# Altium integrated library Altera Arria GX.IntLib: 44 symbols (part 7 of 24)
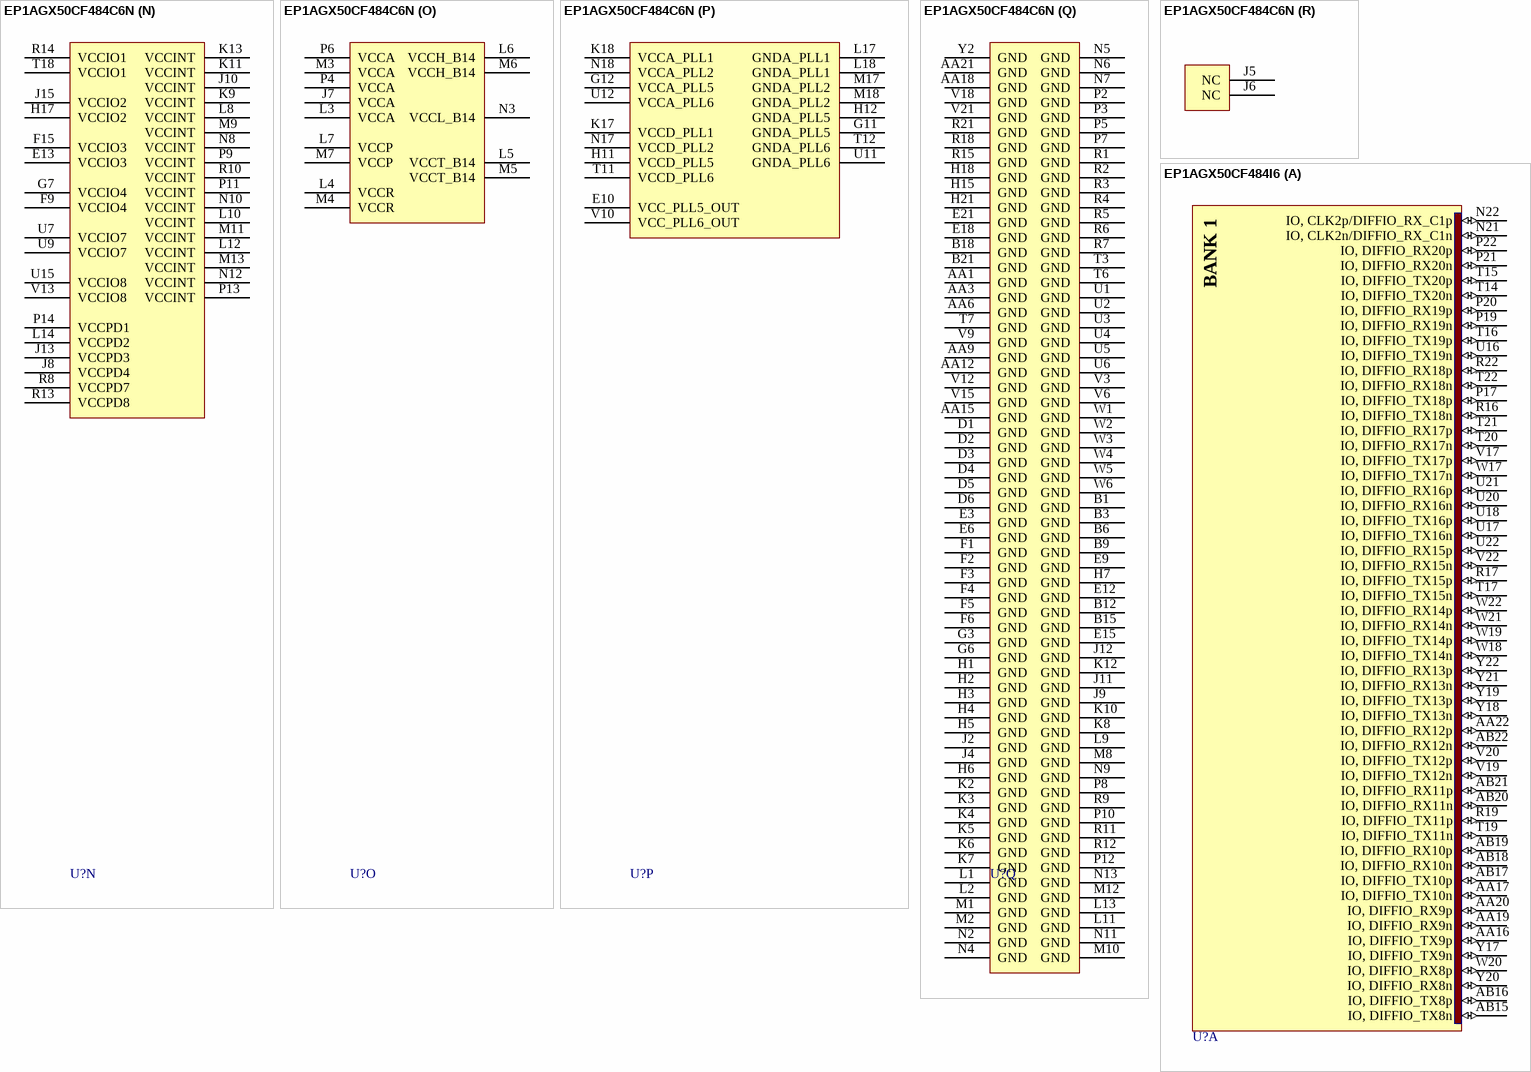
[diagram p146: symbols EP1AGX50CF484C6N to EP1AGX50CF484I6]

## EP1AGX50CF484C6N
designator U?
Arria GX Family FPGA, 254 I/O Pins, 4 PLLs, 484-Pin FPGA, Speed Grade 6, Commercial Grade, Pb-Free; Note: DQS signal pins named according to DQ bus modes.  "/" separates each mode. ie. Modes x8/x9 / Modes x16/x18.; Published: 20-Jul-2007; DatasheetVersion: ver1.3, May-2008; PackageVersion: ver16.0, Dec-2009; PackageReference: FBGA484; Publisher: Altium Limited; PackageDescription: 484-Ball FineLine Ball Grid Array (FBGA484) - Flip Chip; Supplier 1: Digi-Key; Supplier Part Number 1: 544-2397-ND; Code_JEDEC: MS-034-AAJ-1; Code_IPC: BGA100P22X22-484; ComponentLink1Description: Manufacturer Link; ComponentLink1URL: http://www.altera.com/; ComponentLink2Description: Datasheet; ComponentLink2URL: http://www.altera.com/literature/hb/agx/arriagx_handbook.pdf; ComponentLink3Description: Packaging Specification; ComponentLink3URL: http://www.altera.com/literature/ds/dspkg.pdf
footprint FBGA484 (BGA, 484-Leads, Body 23x23mm, Pitch 1mm)
3D model EP1AGX50C-FBGA484 (484-Ball FineLine Ball Grid Array (FBGA484) - Flip Chip)
signal-integrity model EP1AGX50C_F484 (Arria GX)
part A pins: AA16 IO, DIFFIO_TX9p (io), AA17 IO, DIFFIO_TX10n (io), AA19 IO, DIFFIO_RX9n (io), AA20 IO, DIFFIO_RX9p (io), AA22 IO, DIFFIO_RX12p (io), AB15 IO, DIFFIO_TX8n (io), AB16 IO, DIFFIO_TX8p (io), AB17 IO, DIFFIO_TX10p (io), AB18 IO, DIFFIO_RX10n (io), AB19 IO, DIFFIO_RX10p (io), AB20 IO, DIFFIO_RX11n (io), AB21 IO, DIFFIO_RX11p (io), AB22 IO, DIFFIO_RX12n (io), N21 IO, CLK2n/DIFFIO_RX_C1n (io), N22 IO, CLK2p/DIFFIO_RX_C1p (io), P17 IO, DIFFIO_TX18p (io), P19 IO, DIFFIO_RX19n (io), P20 IO, DIFFIO_RX19p (io), P21 IO, DIFFIO_RX20n (io), P22 IO, DIFFIO_RX20p (io), R16 IO, DIFFIO_TX18n (io), R17 IO, DIFFIO_TX15p (io), R19 IO, DIFFIO_TX11p (io), R22 IO, DIFFIO_RX18p (io), T14 IO, DIFFIO_TX20n (io), T15 IO, DIFFIO_TX20p (io), T16 IO, DIFFIO_TX19p (io), T17 IO, DIFFIO_TX15n (io), T19 IO, DIFFIO_TX11n (io), T20 IO, DIFFIO_RX17n (io), T21 IO, DIFFIO_RX17p (io), T22 IO, DIFFIO_RX18n (io), U16 IO, DIFFIO_TX19n (io), U17 IO, DIFFIO_TX16n (io), U18 IO, DIFFIO_TX16p (io), U20 IO, DIFFIO_RX16n (io), U21 IO, DIFFIO_RX16p (io), U22 IO, DIFFIO_RX15p (io), V17 IO, DIFFIO_TX17p (io), V19 IO, DIFFIO_TX12n (io), V20 IO, DIFFIO_TX12p (io), V22 IO, DIFFIO_RX15n (io), W17 IO, DIFFIO_TX17n (io), W18 IO, DIFFIO_TX14n (io), W19 IO, DIFFIO_TX14p (io), W20 IO, DIFFIO_RX8p (io), W21 IO, DIFFIO_RX14n (io), W22 IO, DIFFIO_RX14p (io), Y17 IO, DIFFIO_TX9n (io), Y18 IO, DIFFIO_TX13n (io), Y19 IO, DIFFIO_TX13p (io), Y20 IO, DIFFIO_RX8n (io), Y21 IO, DIFFIO_RX13n (io), Y22 IO, DIFFIO_RX13p (io)
part B pins: A17 IO, DIFFIO_RX35p (io), A18 IO, DIFFIO_RX34n (io), A19 IO, DIFFIO_RX34p (io), A20 IO, DIFFIO_RX33n (io), A21 IO, DIFFIO_RX33p (io), A22 IO, DIFFIO_RX32n (io), B17 IO, DIFFIO_RX35n (io), B19 IO, DIFFIO_RX36n (io), B20 IO, DIFFIO_RX36p (io), B22 IO, DIFFIO_RX32p (io), C19 IO, DIFFIO_TX35n (io), C20 IO, DIFFIO_TX35p (io), C21 IO, DIFFIO_RX31n (io), C22 IO, DIFFIO_RX31p (io), D18 IO, DIFFIO_TX36n (io), D19 IO, DIFFIO_TX36p (io), D20 IO, DIFFIO_TX34p (io), D21 IO, DIFFIO_RX30n (io), D22 IO, DIFFIO_RX30p (io), E20 IO, DIFFIO_TX34n (io), E22 IO, DIFFIO_RX29p (io), F17 IO, DIFFIO_TX31n (io), F18 IO, DIFFIO_TX31p (io), F19 IO, DIFFIO_TX33n (io), F20 IO, DIFFIO_TX33p (io), F21 IO, DIFFIO_RX28p (io), F22 IO, DIFFIO_RX29n (io), G16 IO, DIFFIO_TX30n (io), G17 IO, DIFFIO_TX30p (io), G18 IO, DIFFIO_TX32n (io), G19 IO, DIFFIO_TX32p (io), G20 IO, DIFFIO_RX27p (io), G21 IO, DIFFIO_RX28n (io), G22 IO, DIFFIO_RX26p (io), H16 IO, DIFFIO_TX29p (io), H20 IO, DIFFIO_RX27n (io), H22 IO, DIFFIO_RX26n (io), J16 IO, DIFFIO_TX29n (io), J17 IO, DIFFIO_TX27p (io), J19 IO, DIFFIO_RX24n (io), J20 IO, DIFFIO_RX24p (io), J21 IO, DIFFIO_RX25n (io), J22 IO, DIFFIO_RX25p (io), K14 IO, DIFFIO_TX28n (io), K15 IO, DIFFIO_TX28p (io), K16 IO, DIFFIO_TX27n (io), K19 IO, DIFFIO_TX23n (io), K20 IO, DIFFIO_TX23p (io), K21 IO, DIFFIO_RX23n (io), K22 IO, DIFFIO_RX23p (io), L15 IO, DIFFIO_TX26n (io), L16 IO, DIFFIO_TX26p (io), L19 IO, DIFFIO_RX21n (io), L20 IO, DIFFIO_RX21p (io), L21 IO, DIFFIO_RX22n (io), L22 IO, DIFFIO_RX22p (io), M14 IO, DIFFIO_TX25p (io), M15 IO, DIFFIO_TX24n (io), M16 IO, DIFFIO_TX24p (io), M21 IO, CLK0n/DIFFIO_RX_C0n (io), M22 IO, CLK0p/DIFFIO_RX_C0p (io), N14 IO, DIFFIO_TX25n (io), N15 IO, DIFFIO_TX22n (io), N16 IO, DIFFIO_TX22p (io), P15 IO, DIFFIO_TX21n (io), P16 IO, DIFFIO_TX21p (io)
part C pins: A8 IO, CLK14p (io), A9 IO, CLK14n (io), A10 IO (CRC_ERROR) (io), A11 IO (RDYnBSY) (io), A12 IO (DATA2) (io), A13 IO (DATA3) (io), A14 IO (DATA6) (io), B10 IO (nCSO) (io), B11 IO (DATA4) (io), B13 IO, DQ11T, DQ2T/DQ1T (io), B14 IO, DQ11T, DQ2T/DQ1T (io), C10 IO, CLK15p (io), C11 IO (PGM2) (io), C12 IO, DQ11T, DQ2T/DQ1T (io), C13 IO, DQ11T, DQ2T/DQ1T (io), C14 IO, _/DQ1T (io), C15 IO, DQ17T, DQ3T/DQ1T (io), C16 IO (DATA7) (io), C17 IO (INIT_DONE) (io), D10 IO, CLK15n (io), D11 IO (DATA0) (io), D12 IO (PGM0) (io), D13 IO (PGM1) (io), D14 IO, DQS11T, DQS2T/_ (io), D15 IO (io), D16 IO, DQ3T/DQ1T (io), D17 IO (DATA5) (io), F12 IO (ASDO) (io), F13 IO (DATA1) (io), F14 IO, DQ10T (io), F16 IO, DQ15T, DQ3T/DQ1T (io), G13 IO, DQ10T (io), G14 IO, DQ2T/_ (io), G15 IO, DQ13T, DQ2T/DQ1T (io), H13 IO, DQS13T, _/DQS1T (io), H14 IO, DQ13T, DQ2T/DQ1T (io), J14 IO, DQ13T, DQ2T/DQ1T (io)
part D pins: A3 IO, DQ7T, DQ1T/DQ0T (io), A4 IO, DQ7T, DQ1T/DQ0T (io), A5 IO, CLK13p (io), A6 IO, CLK13n (io), A7 IO, CLK12p (io), B2 IO (io), B4 IO, DQS7T, DQS1T/_ (io), B5 IO, _/DQ0T (io), B8 IO, CLK12n (io), C6 IO, DQ7T, DQ1T/DQ0T (io), D7 IO, DQ7T, DQ1T/DQ0T (io), F7 IO, DQ3T, DQ0T/DQ0T (io), F8 IO, DQ2T (io), F10 IO, DQ9T, DQ1T/_ (io), F11 IO, DQ9T, DQ1T/DQ0T (io), G8 IO, RDN4 (io), G9 IO, DQ6T (io), G10 IO, DQ9T, DQ1T/DQ0T (io), H8 IO, RUP4 (io), H9 IO, DQS9T (io), H10 IO, DQ1T/DQ0T (io)
part E pins: AA4 IO, DQ7B, DQ1B/DQ0B (io), AA5 IO, DQS7B, DQS1B/_ (io), AA8 IO, CLK7n (io), AB3 IO, RDN7 (io), AB4 IO, DQ7B, DQ1B/DQ0B (io), AB5 IO, _/DQ0B (io), AB8 IO, CLK7p (io), T8 IO, DQ9B, DQ1B/DQ0B (io), T9 IO, DQ9B, DQ1B/DQ0B (io), T10 IO, DQ9B, DQ1B/DQ0B (io), U8 IO, DQ8B (io), U10 IO, DQ9B, DQ1B/_ (io), W9 IO, CLK6n (io), Y3 IO, RUP7 (io), Y4 IO, DQ3B, DQ0B/DQ0B (io), Y5 IO, DQ5B, DQ0B/DQ0B (io), Y6 IO, DQ6B (io), Y8 IO, CLK6p (io)
part F pins: AA10 IO, CLK4p (io), AA11 IO (CLKUSR) (io), AA13 IO (nWS) (io), AB10 IO (nCS) (io), AB11 IO (nRS) (io), T13 IO (RUnLU) (io), U13 IO (DEV_CLRn) (io), U14 IO (DEV_OE) (io), W10 IO, CLK5n (io), W12 IO, DQ11B, DQ2B/DQ1B (io), W13 IO, DQS11B, DQS2B/_ (io), W14 IO, DQ13B, DQ2B/DQ1B (io), W15 IO (io), Y9 IO, CLK5p (io), Y10 IO, CLK4n (io), Y11 IO, DQ11B, DQ2B/DQ1B (io), Y12 IO, _/DQ1B (io), Y13 IO, DQ11B, DQ2B/DQ1B (io), Y14 IO (CS) (io)
part G pins: B7 IO, PLL5_FBp/OUT2p (io), C7 IO, PLL5_FBn/OUT2n (io), C8 IO, PLL5_OUT1p (io), C9 IO, PLL5_OUT0p (io), D8 IO, PLL5_OUT1n (io), D9 IO, PLL5_OUT0n (io)
part H pins: AA7 IO, PLL6_OUT1p (io), AB6 IO, PLL6_OUT0n (io), AB7 IO, PLL6_OUT0p (io), W7 IO, PLL6_FBn/OUT2n (io), W8 IO, PLL6_FBp/OUT2p (io), Y7 IO, PLL6_OUT1n (io)
part I pins: AB9 IO, PLL12_FBn/OUT2n (io), W11 IO, PLL12_OUT0p (io)
part J pins: E1 GXB_RX5p (in), E2 GXB_RX5n (in), E4 GXB_TX5p (out), E5 GXB_TX5n (out), G1 GXB_RX4p (in), G2 GXB_RX4n (in), G4 GXB_TX4p (out), G5 GXB_TX4n (out), J1 REFCLK1_B14n (in), J3 RREFB14 (in), K1 REFCLK1_B14p (in), N1 REFCLK0_B14n (in), P1 REFCLK0_B14p (in), T1 GXB_RX6p (in), T2 GXB_RX6n (in), T4 GXB_TX6p (out), T5 GXB_TX6n (out), V1 GXB_RX7p (in), V2 GXB_RX7n (in), V4 GXB_TX7p (out), V5 GXB_TX7n (out)
part K pins: M19 CLK1n, INPUT (in), M20 CLK1p, INPUT (in), N19 CLK3n, INPUT (in), N20 CLK3p, INPUT (in)
part L pins: E7 VREFB4N0 (in), E8 VREFB4N1 (in), E11 VREFB4N2 (in), E14 VREFB3N0 (in), E16 VREFB3N1 (in), E17 VREFB3N2 (in), E19 VREFB2N2 (in), H19 VREFB2N1 (in), J18 VREFB2N0 (in), P18 VREFB1N2 (in), R20 VREFB1N1 (in), U19 VREFB1N0 (in), V7 VREFB7N2 (in), V8 VREFB7N1 (in), V11 VREFB7N0 (in), V14 VREFB8N2 (in), V16 VREFB8N1 (in), W16 VREFB8N0 (in)
part M pins: A1 MSEL3 (in), A2 MSEL2 (in), A15 nCE (in), A16 nSTATUS (io), AA2 PLL_ENA (in), AA14 TDI (in), AB1 nIO_PULLUP (in), AB2 PORSEL (in), AB12 VCCSEL (in), AB13 TCK (in), AB14 TRST (in), B16 DCLK (io), C1 TDO (out), C2 TEMPDIODEn (in), C3 TEMPDIODEp (in), C4 MSEL1 (in), C5 MSEL0 (in), C18 CONF_DONE (io), Y1 nCEO (out), Y15 nCONFIG (in), Y16 TMS (in)
part N pins: E13 VCCIO3 (power), F9 VCCIO4 (power), F15 VCCIO3 (power), G7 VCCIO4 (power), H17 VCCIO2 (power), J8 VCCPD4 (power), J10 VCCINT (power), J13 VCCPD3 (power), J15 VCCIO2 (power), K9 VCCINT (power), K11 VCCINT (power), K13 VCCINT (power), L8 VCCINT (power), L10 VCCINT (power), L12 VCCINT (power), L14 VCCPD2 (power), M9 VCCINT (power), M11 VCCINT (power), M13 VCCINT (power), N8 VCCINT (power), N10 VCCINT (power), N12 VCCINT (power), P9 VCCINT (power), P11 VCCINT (power), P13 VCCINT (power), P14 VCCPD1 (power), R8 VCCPD7 (power), R10 VCCINT (power), R13 VCCPD8 (power), R14 VCCIO1 (power), T18 VCCIO1 (power), U7 VCCIO7 (power), U9 VCCIO7 (power), U15 VCCIO8 (power), V13 VCCIO8 (power)
part O pins: J7 VCCA (power), L3 VCCA (power), L4 VCCR (power), L5 VCCT_B14 (power), L6 VCCH_B14 (power), L7 VCCP (power), M3 VCCA (power), M4 VCCR (power), M5 VCCT_B14 (power), M6 VCCH_B14 (power), M7 VCCP (power), N3 VCCL_B14 (power), P4 VCCA (power), P6 VCCA (power)
part P pins: E10 VCC_PLL5_OUT (power), G11 GNDA_PLL5 (power), G12 VCCA_PLL5 (power), H11 VCCD_PLL5 (power), H12 GNDA_PLL5 (power), K17 VCCD_PLL1 (power), K18 VCCA_PLL1 (power), L17 GNDA_PLL1 (power), L18 GNDA_PLL1 (power), M17 GNDA_PLL2 (power), M18 GNDA_PLL2 (power), N17 VCCD_PLL2 (power), N18 VCCA_PLL2 (power), T11 VCCD_PLL6 (power), T12 GNDA_PLL6 (power), U11 GNDA_PLL6 (power), U12 VCCA_PLL6 (power), V10 VCC_PLL6_OUT (power)
part Q pins: AA1 GND (power), AA3 GND (power), AA6 GND (power), AA9 GND (power), AA12 GND (power), AA15 GND (power), AA18 GND (power), AA21 GND (power), B1 GND (power), B3 GND (power), B6 GND (power), B9 GND (power), B12 GND (power), B15 GND (power), B18 GND (power), B21 GND (power), D1 GND (power), D2 GND (power), D3 GND (power), D4 GND (power), D5 GND (power), D6 GND (power), E3 GND (power), E6 GND (power), E9 GND (power), E12 GND (power), E15 GND (power), E18 GND (power), E21 GND (power), F1 GND (power), F2 GND (power), F3 GND (power), F4 GND (power), F5 GND (power), F6 GND (power), G3 GND (power), G6 GND (power), H1 GND (power), H2 GND (power), H3 GND (power), H4 GND (power), H5 GND (power), H6 GND (power), H7 GND (power), H15 GND (power), H18 GND (power), H21 GND (power), J2 GND (power), J4 GND (power), J9 GND (power), J11 GND (power), J12 GND (power), K2 GND (power), K3 GND (power), K4 GND (power), K5 GND (power), K6 GND (power), K7 GND (power), K8 GND (power), K10 GND (power), K12 GND (power), L1 GND (power), L2 GND (power), L9 GND (power), L11 GND (power), L13 GND (power), M1 GND (power), M2 GND (power), M8 GND (power), M10 GND (power), M12 GND (power), N2 GND (power), N4 GND (power), N5 GND (power), N6 GND (power), N7 GND (power), N9 GND (power), N11 GND (power), N13 GND (power), P2 GND (power), P3 GND (power), P5 GND (power), P7 GND (power), P8 GND (power), P10 GND (power), P12 GND (power), R1 GND (power), R2 GND (power), R3 GND (power), R4 GND (power), R5 GND (power), R6 GND (power), R7 GND (power), R9 GND (power), R11 GND (power), R12 GND (power), R15 GND (power), R18 GND (power), R21 GND (power), T3 GND (power), T6 GND (power), T7 GND (power), U1 GND (power), U2 GND (power), U3 GND (power), U4 GND (power), U5 GND (power), U6 GND (power), V3 GND (power), V6 GND (power), V9 GND (power), V12 GND (power), V15 GND (power), V18 GND (power), V21 GND (power), W1 GND (power), W2 GND (power), W3 GND (power), W4 GND (power), W5 GND (power), W6 GND (power), Y2 GND (power)
part R pins: J5 NC, J6 NC
part A text: BANK 1
part B text: BANK 2
part C text: BANK 3
part D text: BANK 4
part E text: BANK 7
part F text: BANK 8
part G text: BANK 9
part H text: BANK 10
part I text: BANK 12
part J text: BANK 14

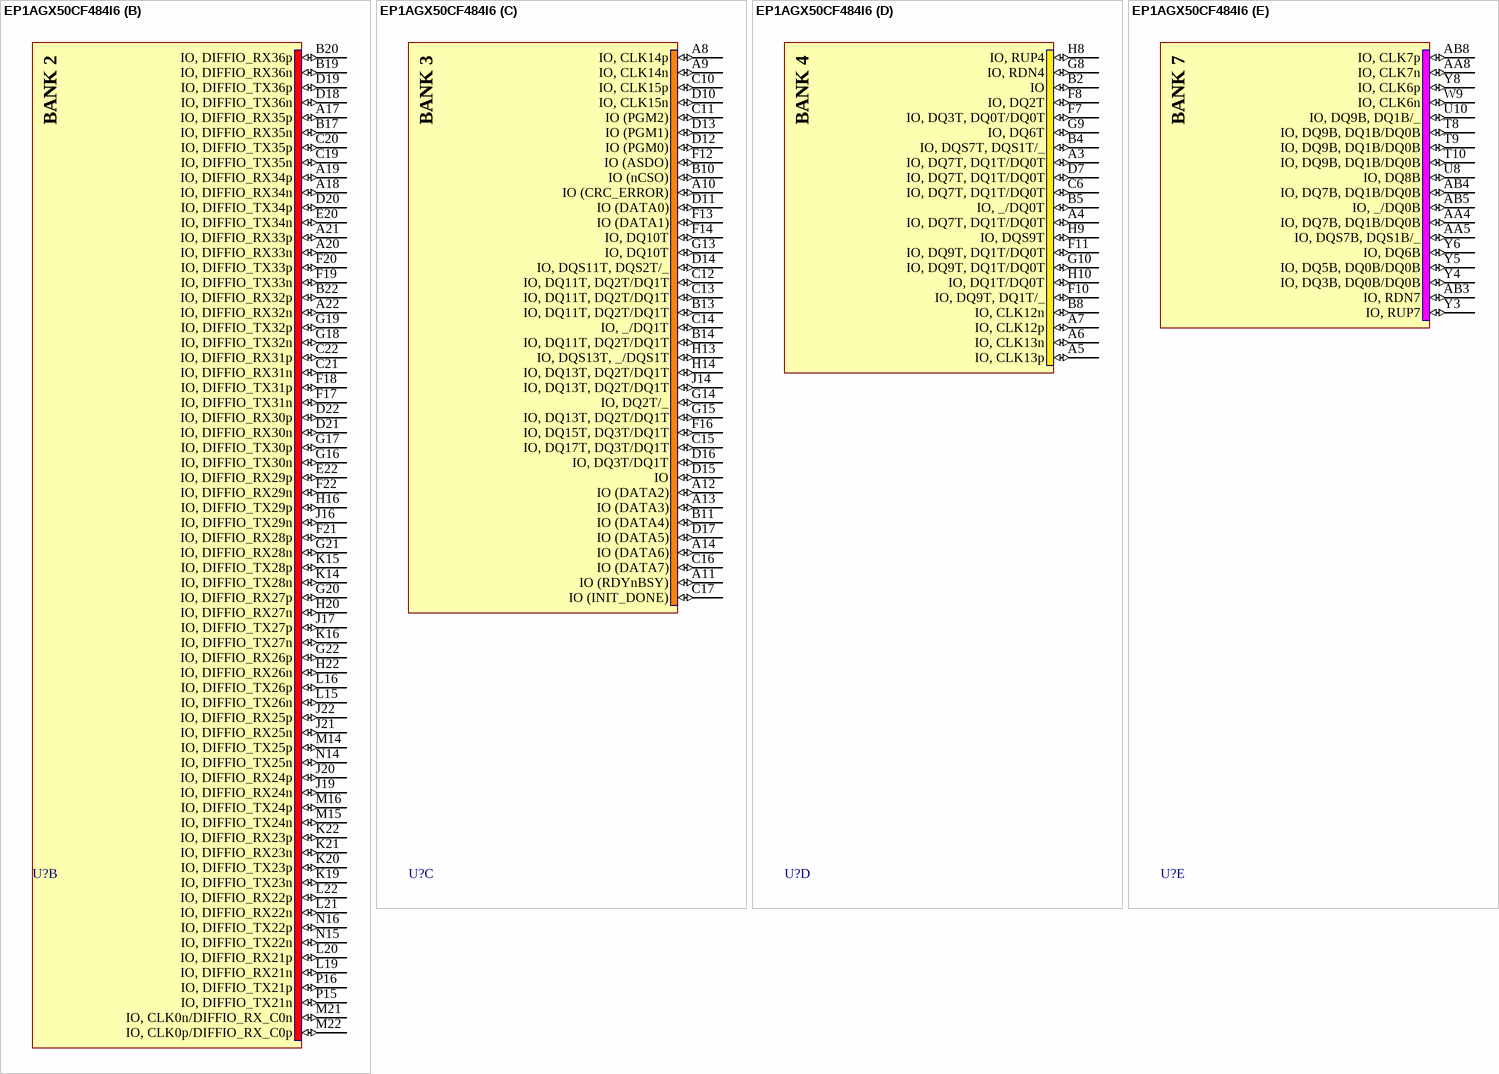
[diagram p55: symbol EP1AGX50CF484I6]

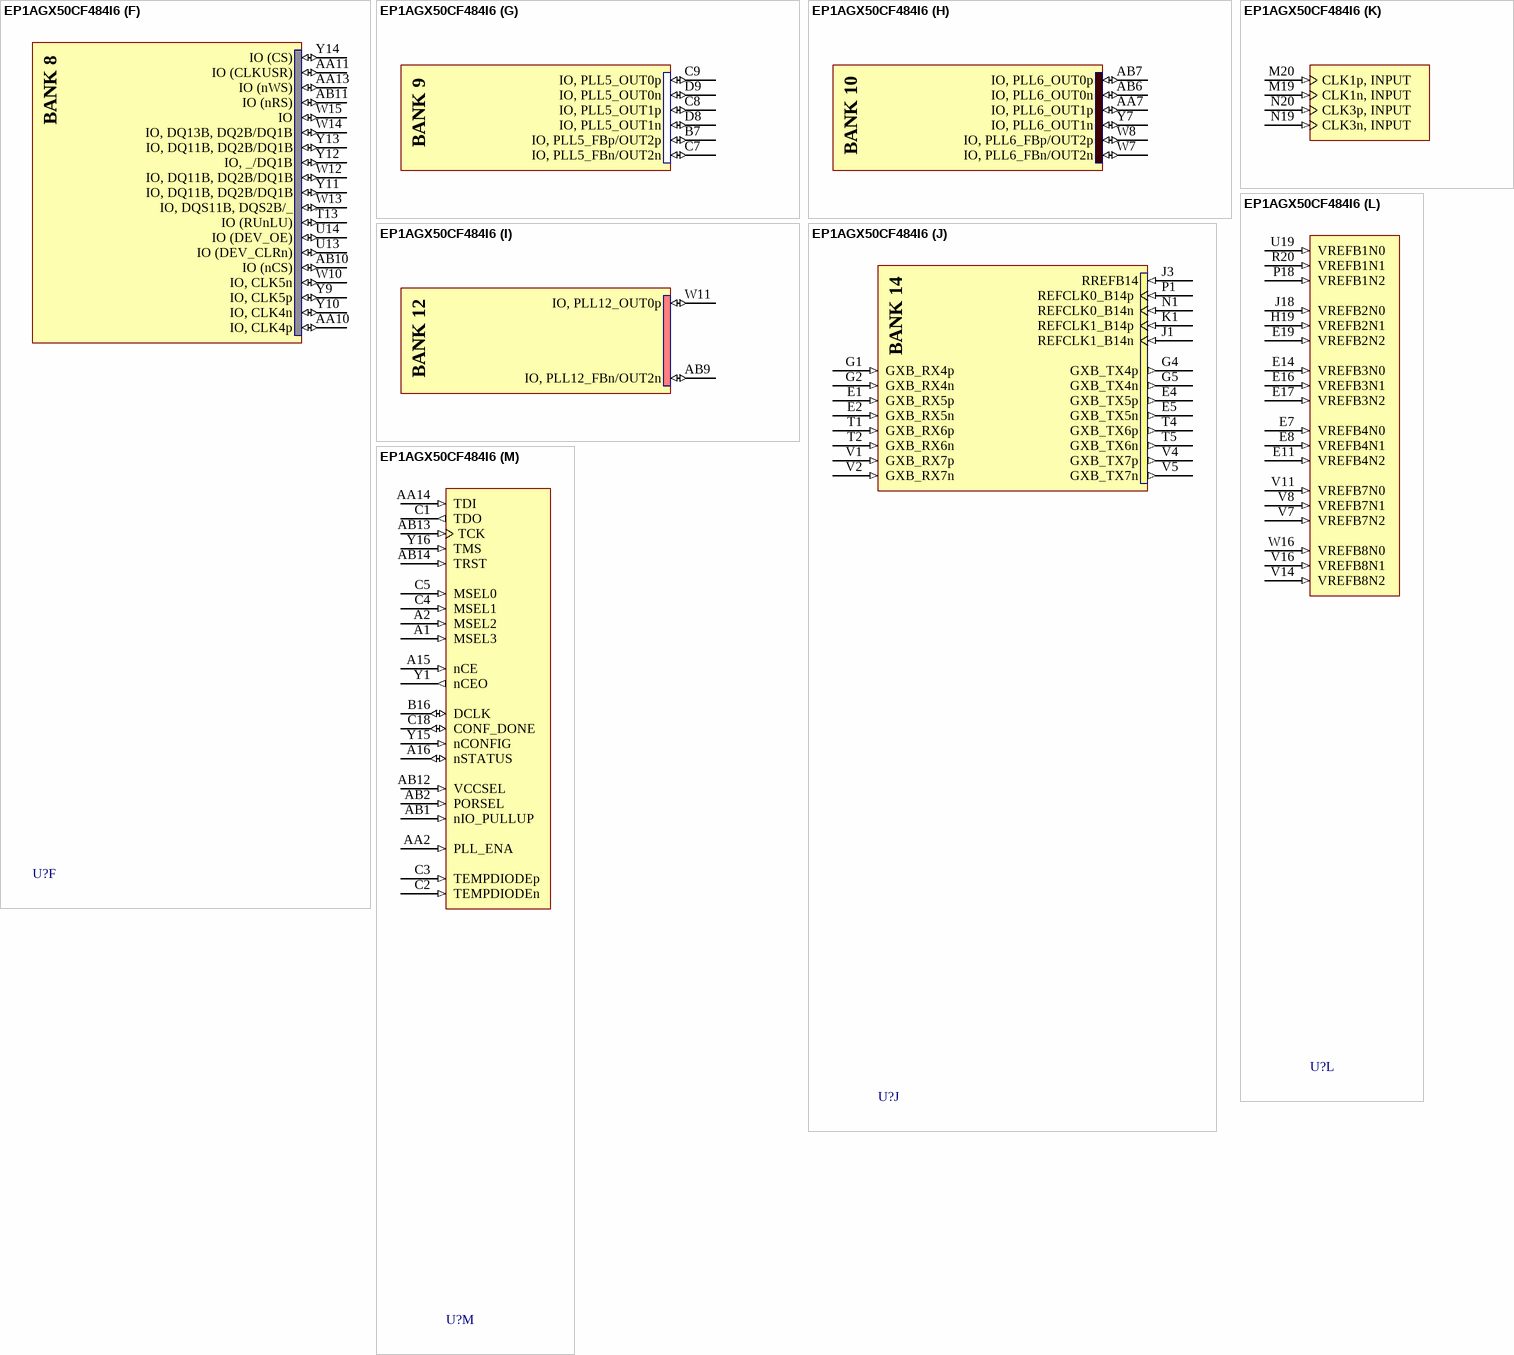
[diagram p56: symbol EP1AGX50CF484I6]

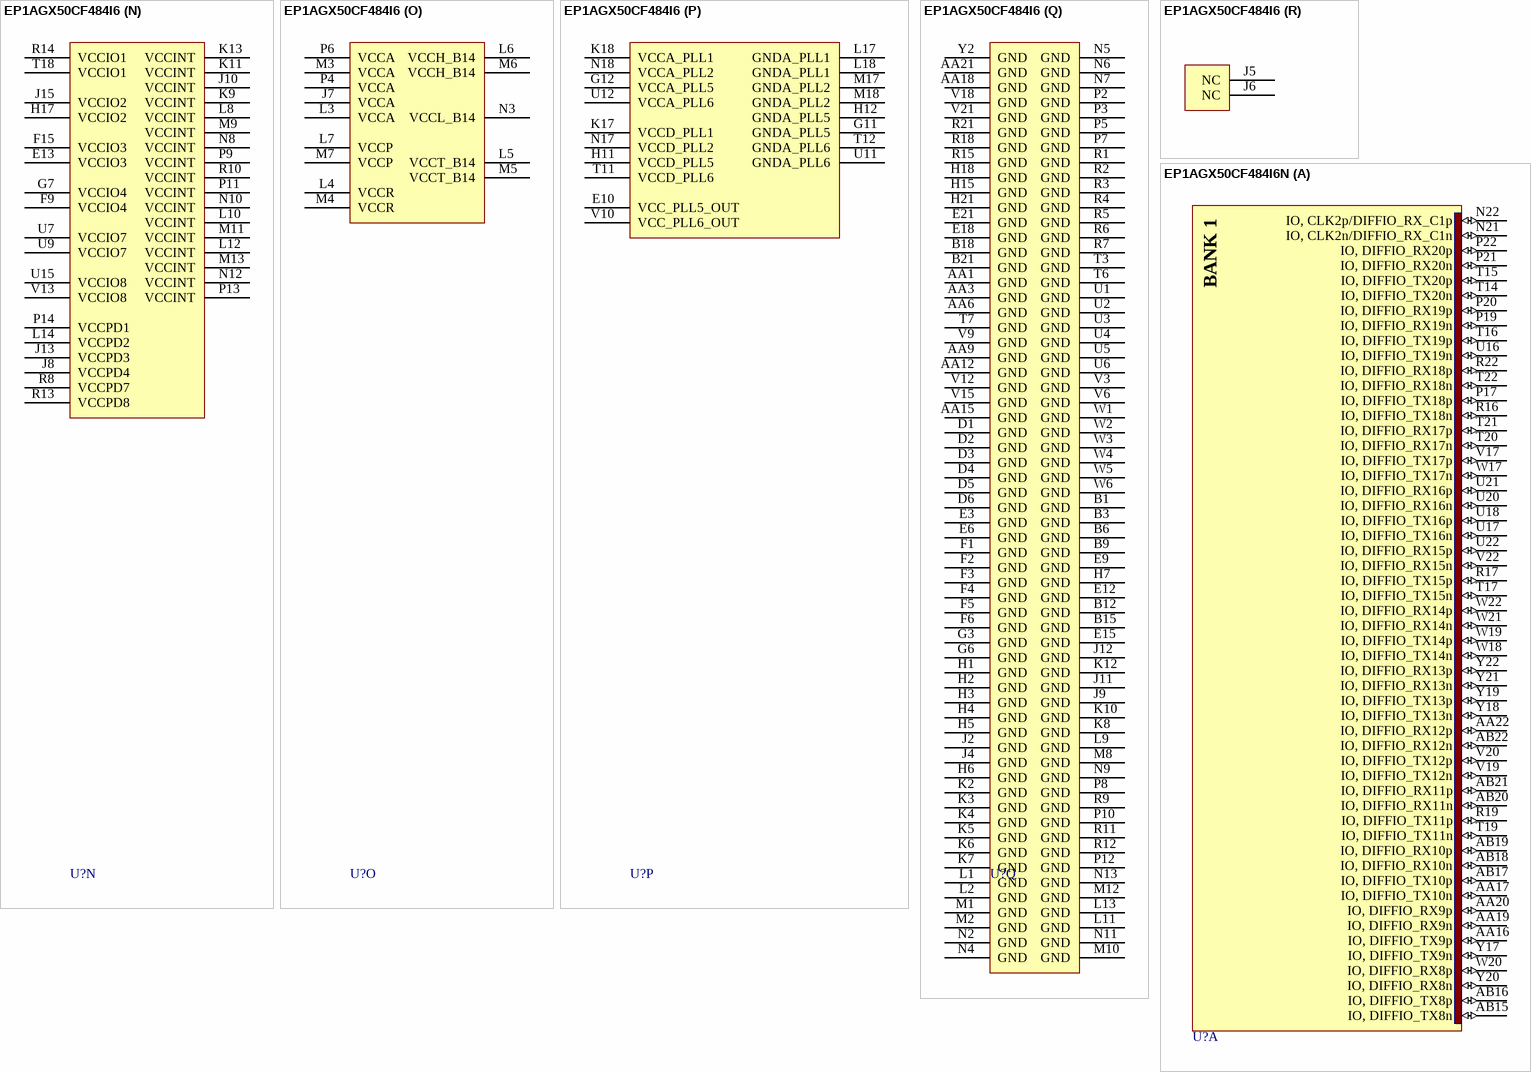
[diagram p57: symbols EP1AGX50CF484I6 to EP1AGX50CF484I6N]

## EP1AGX50CF484I6
designator U?
Arria GX Family FPGA, 254 I/O Pins, 4 PLLs, 484-Pin FPGA, Speed Grade 6, Industrial Grade; Note: DQS signal pins named according to DQ bus modes.  "/" separates each mode. ie. Modes x8/x9 / Modes x16/x18.; Published: 20-Jul-2007; DatasheetVersion: ver1.3, May-2008; PackageVersion: ver16.0, Dec-2009; PackageReference: FBGA484; Publisher: Altium Limited; PackageDescription: 484-Ball FineLine Ball Grid Array (FBGA484) - Flip Chip; Code_JEDEC: MS-034-AAJ-1; Code_IPC: BGA100P22X22-484; ComponentLink1Description: Manufacturer Link; ComponentLink1URL: http://www.altera.com/; ComponentLink2Description: Datasheet; ComponentLink2URL: http://www.altera.com/literature/hb/agx/arriagx_handbook.pdf; ComponentLink3Description: Packaging Specification; ComponentLink3URL: http://www.altera.com/literature/ds/dspkg.pdf
footprint FBGA484 (BGA, 484-Leads, Body 23x23mm, Pitch 1mm)
3D model EP1AGX50C-FBGA484 (484-Ball FineLine Ball Grid Array (FBGA484) - Flip Chip)
signal-integrity model EP1AGX50C_F484 (Arria GX)
part A pins: AA16 IO, DIFFIO_TX9p (io), AA17 IO, DIFFIO_TX10n (io), AA19 IO, DIFFIO_RX9n (io), AA20 IO, DIFFIO_RX9p (io), AA22 IO, DIFFIO_RX12p (io), AB15 IO, DIFFIO_TX8n (io), AB16 IO, DIFFIO_TX8p (io), AB17 IO, DIFFIO_TX10p (io), AB18 IO, DIFFIO_RX10n (io), AB19 IO, DIFFIO_RX10p (io), AB20 IO, DIFFIO_RX11n (io), AB21 IO, DIFFIO_RX11p (io), AB22 IO, DIFFIO_RX12n (io), N21 IO, CLK2n/DIFFIO_RX_C1n (io), N22 IO, CLK2p/DIFFIO_RX_C1p (io), P17 IO, DIFFIO_TX18p (io), P19 IO, DIFFIO_RX19n (io), P20 IO, DIFFIO_RX19p (io), P21 IO, DIFFIO_RX20n (io), P22 IO, DIFFIO_RX20p (io), R16 IO, DIFFIO_TX18n (io), R17 IO, DIFFIO_TX15p (io), R19 IO, DIFFIO_TX11p (io), R22 IO, DIFFIO_RX18p (io), T14 IO, DIFFIO_TX20n (io), T15 IO, DIFFIO_TX20p (io), T16 IO, DIFFIO_TX19p (io), T17 IO, DIFFIO_TX15n (io), T19 IO, DIFFIO_TX11n (io), T20 IO, DIFFIO_RX17n (io), T21 IO, DIFFIO_RX17p (io), T22 IO, DIFFIO_RX18n (io), U16 IO, DIFFIO_TX19n (io), U17 IO, DIFFIO_TX16n (io), U18 IO, DIFFIO_TX16p (io), U20 IO, DIFFIO_RX16n (io), U21 IO, DIFFIO_RX16p (io), U22 IO, DIFFIO_RX15p (io), V17 IO, DIFFIO_TX17p (io), V19 IO, DIFFIO_TX12n (io), V20 IO, DIFFIO_TX12p (io), V22 IO, DIFFIO_RX15n (io), W17 IO, DIFFIO_TX17n (io), W18 IO, DIFFIO_TX14n (io), W19 IO, DIFFIO_TX14p (io), W20 IO, DIFFIO_RX8p (io), W21 IO, DIFFIO_RX14n (io), W22 IO, DIFFIO_RX14p (io), Y17 IO, DIFFIO_TX9n (io), Y18 IO, DIFFIO_TX13n (io), Y19 IO, DIFFIO_TX13p (io), Y20 IO, DIFFIO_RX8n (io), Y21 IO, DIFFIO_RX13n (io), Y22 IO, DIFFIO_RX13p (io)
part B pins: A17 IO, DIFFIO_RX35p (io), A18 IO, DIFFIO_RX34n (io), A19 IO, DIFFIO_RX34p (io), A20 IO, DIFFIO_RX33n (io), A21 IO, DIFFIO_RX33p (io), A22 IO, DIFFIO_RX32n (io), B17 IO, DIFFIO_RX35n (io), B19 IO, DIFFIO_RX36n (io), B20 IO, DIFFIO_RX36p (io), B22 IO, DIFFIO_RX32p (io), C19 IO, DIFFIO_TX35n (io), C20 IO, DIFFIO_TX35p (io), C21 IO, DIFFIO_RX31n (io), C22 IO, DIFFIO_RX31p (io), D18 IO, DIFFIO_TX36n (io), D19 IO, DIFFIO_TX36p (io), D20 IO, DIFFIO_TX34p (io), D21 IO, DIFFIO_RX30n (io), D22 IO, DIFFIO_RX30p (io), E20 IO, DIFFIO_TX34n (io), E22 IO, DIFFIO_RX29p (io), F17 IO, DIFFIO_TX31n (io), F18 IO, DIFFIO_TX31p (io), F19 IO, DIFFIO_TX33n (io), F20 IO, DIFFIO_TX33p (io), F21 IO, DIFFIO_RX28p (io), F22 IO, DIFFIO_RX29n (io), G16 IO, DIFFIO_TX30n (io), G17 IO, DIFFIO_TX30p (io), G18 IO, DIFFIO_TX32n (io), G19 IO, DIFFIO_TX32p (io), G20 IO, DIFFIO_RX27p (io), G21 IO, DIFFIO_RX28n (io), G22 IO, DIFFIO_RX26p (io), H16 IO, DIFFIO_TX29p (io), H20 IO, DIFFIO_RX27n (io), H22 IO, DIFFIO_RX26n (io), J16 IO, DIFFIO_TX29n (io), J17 IO, DIFFIO_TX27p (io), J19 IO, DIFFIO_RX24n (io), J20 IO, DIFFIO_RX24p (io), J21 IO, DIFFIO_RX25n (io), J22 IO, DIFFIO_RX25p (io), K14 IO, DIFFIO_TX28n (io), K15 IO, DIFFIO_TX28p (io), K16 IO, DIFFIO_TX27n (io), K19 IO, DIFFIO_TX23n (io), K20 IO, DIFFIO_TX23p (io), K21 IO, DIFFIO_RX23n (io), K22 IO, DIFFIO_RX23p (io), L15 IO, DIFFIO_TX26n (io), L16 IO, DIFFIO_TX26p (io), L19 IO, DIFFIO_RX21n (io), L20 IO, DIFFIO_RX21p (io), L21 IO, DIFFIO_RX22n (io), L22 IO, DIFFIO_RX22p (io), M14 IO, DIFFIO_TX25p (io), M15 IO, DIFFIO_TX24n (io), M16 IO, DIFFIO_TX24p (io), M21 IO, CLK0n/DIFFIO_RX_C0n (io), M22 IO, CLK0p/DIFFIO_RX_C0p (io), N14 IO, DIFFIO_TX25n (io), N15 IO, DIFFIO_TX22n (io), N16 IO, DIFFIO_TX22p (io), P15 IO, DIFFIO_TX21n (io), P16 IO, DIFFIO_TX21p (io)
part C pins: A8 IO, CLK14p (io), A9 IO, CLK14n (io), A10 IO (CRC_ERROR) (io), A11 IO (RDYnBSY) (io), A12 IO (DATA2) (io), A13 IO (DATA3) (io), A14 IO (DATA6) (io), B10 IO (nCSO) (io), B11 IO (DATA4) (io), B13 IO, DQ11T, DQ2T/DQ1T (io), B14 IO, DQ11T, DQ2T/DQ1T (io), C10 IO, CLK15p (io), C11 IO (PGM2) (io), C12 IO, DQ11T, DQ2T/DQ1T (io), C13 IO, DQ11T, DQ2T/DQ1T (io), C14 IO, _/DQ1T (io), C15 IO, DQ17T, DQ3T/DQ1T (io), C16 IO (DATA7) (io), C17 IO (INIT_DONE) (io), D10 IO, CLK15n (io), D11 IO (DATA0) (io), D12 IO (PGM0) (io), D13 IO (PGM1) (io), D14 IO, DQS11T, DQS2T/_ (io), D15 IO (io), D16 IO, DQ3T/DQ1T (io), D17 IO (DATA5) (io), F12 IO (ASDO) (io), F13 IO (DATA1) (io), F14 IO, DQ10T (io), F16 IO, DQ15T, DQ3T/DQ1T (io), G13 IO, DQ10T (io), G14 IO, DQ2T/_ (io), G15 IO, DQ13T, DQ2T/DQ1T (io), H13 IO, DQS13T, _/DQS1T (io), H14 IO, DQ13T, DQ2T/DQ1T (io), J14 IO, DQ13T, DQ2T/DQ1T (io)
part D pins: A3 IO, DQ7T, DQ1T/DQ0T (io), A4 IO, DQ7T, DQ1T/DQ0T (io), A5 IO, CLK13p (io), A6 IO, CLK13n (io), A7 IO, CLK12p (io), B2 IO (io), B4 IO, DQS7T, DQS1T/_ (io), B5 IO, _/DQ0T (io), B8 IO, CLK12n (io), C6 IO, DQ7T, DQ1T/DQ0T (io), D7 IO, DQ7T, DQ1T/DQ0T (io), F7 IO, DQ3T, DQ0T/DQ0T (io), F8 IO, DQ2T (io), F10 IO, DQ9T, DQ1T/_ (io), F11 IO, DQ9T, DQ1T/DQ0T (io), G8 IO, RDN4 (io), G9 IO, DQ6T (io), G10 IO, DQ9T, DQ1T/DQ0T (io), H8 IO, RUP4 (io), H9 IO, DQS9T (io), H10 IO, DQ1T/DQ0T (io)
part E pins: AA4 IO, DQ7B, DQ1B/DQ0B (io), AA5 IO, DQS7B, DQS1B/_ (io), AA8 IO, CLK7n (io), AB3 IO, RDN7 (io), AB4 IO, DQ7B, DQ1B/DQ0B (io), AB5 IO, _/DQ0B (io), AB8 IO, CLK7p (io), T8 IO, DQ9B, DQ1B/DQ0B (io), T9 IO, DQ9B, DQ1B/DQ0B (io), T10 IO, DQ9B, DQ1B/DQ0B (io), U8 IO, DQ8B (io), U10 IO, DQ9B, DQ1B/_ (io), W9 IO, CLK6n (io), Y3 IO, RUP7 (io), Y4 IO, DQ3B, DQ0B/DQ0B (io), Y5 IO, DQ5B, DQ0B/DQ0B (io), Y6 IO, DQ6B (io), Y8 IO, CLK6p (io)
part F pins: AA10 IO, CLK4p (io), AA11 IO (CLKUSR) (io), AA13 IO (nWS) (io), AB10 IO (nCS) (io), AB11 IO (nRS) (io), T13 IO (RUnLU) (io), U13 IO (DEV_CLRn) (io), U14 IO (DEV_OE) (io), W10 IO, CLK5n (io), W12 IO, DQ11B, DQ2B/DQ1B (io), W13 IO, DQS11B, DQS2B/_ (io), W14 IO, DQ13B, DQ2B/DQ1B (io), W15 IO (io), Y9 IO, CLK5p (io), Y10 IO, CLK4n (io), Y11 IO, DQ11B, DQ2B/DQ1B (io), Y12 IO, _/DQ1B (io), Y13 IO, DQ11B, DQ2B/DQ1B (io), Y14 IO (CS) (io)
part G pins: B7 IO, PLL5_FBp/OUT2p (io), C7 IO, PLL5_FBn/OUT2n (io), C8 IO, PLL5_OUT1p (io), C9 IO, PLL5_OUT0p (io), D8 IO, PLL5_OUT1n (io), D9 IO, PLL5_OUT0n (io)
part H pins: AA7 IO, PLL6_OUT1p (io), AB6 IO, PLL6_OUT0n (io), AB7 IO, PLL6_OUT0p (io), W7 IO, PLL6_FBn/OUT2n (io), W8 IO, PLL6_FBp/OUT2p (io), Y7 IO, PLL6_OUT1n (io)
part I pins: AB9 IO, PLL12_FBn/OUT2n (io), W11 IO, PLL12_OUT0p (io)
part J pins: E1 GXB_RX5p (in), E2 GXB_RX5n (in), E4 GXB_TX5p (out), E5 GXB_TX5n (out), G1 GXB_RX4p (in), G2 GXB_RX4n (in), G4 GXB_TX4p (out), G5 GXB_TX4n (out), J1 REFCLK1_B14n (in), J3 RREFB14 (in), K1 REFCLK1_B14p (in), N1 REFCLK0_B14n (in), P1 REFCLK0_B14p (in), T1 GXB_RX6p (in), T2 GXB_RX6n (in), T4 GXB_TX6p (out), T5 GXB_TX6n (out), V1 GXB_RX7p (in), V2 GXB_RX7n (in), V4 GXB_TX7p (out), V5 GXB_TX7n (out)
part K pins: M19 CLK1n, INPUT (in), M20 CLK1p, INPUT (in), N19 CLK3n, INPUT (in), N20 CLK3p, INPUT (in)
part L pins: E7 VREFB4N0 (in), E8 VREFB4N1 (in), E11 VREFB4N2 (in), E14 VREFB3N0 (in), E16 VREFB3N1 (in), E17 VREFB3N2 (in), E19 VREFB2N2 (in), H19 VREFB2N1 (in), J18 VREFB2N0 (in), P18 VREFB1N2 (in), R20 VREFB1N1 (in), U19 VREFB1N0 (in), V7 VREFB7N2 (in), V8 VREFB7N1 (in), V11 VREFB7N0 (in), V14 VREFB8N2 (in), V16 VREFB8N1 (in), W16 VREFB8N0 (in)
part M pins: A1 MSEL3 (in), A2 MSEL2 (in), A15 nCE (in), A16 nSTATUS (io), AA2 PLL_ENA (in), AA14 TDI (in), AB1 nIO_PULLUP (in), AB2 PORSEL (in), AB12 VCCSEL (in), AB13 TCK (in), AB14 TRST (in), B16 DCLK (io), C1 TDO (out), C2 TEMPDIODEn (in), C3 TEMPDIODEp (in), C4 MSEL1 (in), C5 MSEL0 (in), C18 CONF_DONE (io), Y1 nCEO (out), Y15 nCONFIG (in), Y16 TMS (in)
part N pins: E13 VCCIO3 (power), F9 VCCIO4 (power), F15 VCCIO3 (power), G7 VCCIO4 (power), H17 VCCIO2 (power), J8 VCCPD4 (power), J10 VCCINT (power), J13 VCCPD3 (power), J15 VCCIO2 (power), K9 VCCINT (power), K11 VCCINT (power), K13 VCCINT (power), L8 VCCINT (power), L10 VCCINT (power), L12 VCCINT (power), L14 VCCPD2 (power), M9 VCCINT (power), M11 VCCINT (power), M13 VCCINT (power), N8 VCCINT (power), N10 VCCINT (power), N12 VCCINT (power), P9 VCCINT (power), P11 VCCINT (power), P13 VCCINT (power), P14 VCCPD1 (power), R8 VCCPD7 (power), R10 VCCINT (power), R13 VCCPD8 (power), R14 VCCIO1 (power), T18 VCCIO1 (power), U7 VCCIO7 (power), U9 VCCIO7 (power), U15 VCCIO8 (power), V13 VCCIO8 (power)
part O pins: J7 VCCA (power), L3 VCCA (power), L4 VCCR (power), L5 VCCT_B14 (power), L6 VCCH_B14 (power), L7 VCCP (power), M3 VCCA (power), M4 VCCR (power), M5 VCCT_B14 (power), M6 VCCH_B14 (power), M7 VCCP (power), N3 VCCL_B14 (power), P4 VCCA (power), P6 VCCA (power)
part P pins: E10 VCC_PLL5_OUT (power), G11 GNDA_PLL5 (power), G12 VCCA_PLL5 (power), H11 VCCD_PLL5 (power), H12 GNDA_PLL5 (power), K17 VCCD_PLL1 (power), K18 VCCA_PLL1 (power), L17 GNDA_PLL1 (power), L18 GNDA_PLL1 (power), M17 GNDA_PLL2 (power), M18 GNDA_PLL2 (power), N17 VCCD_PLL2 (power), N18 VCCA_PLL2 (power), T11 VCCD_PLL6 (power), T12 GNDA_PLL6 (power), U11 GNDA_PLL6 (power), U12 VCCA_PLL6 (power), V10 VCC_PLL6_OUT (power)
part Q pins: AA1 GND (power), AA3 GND (power), AA6 GND (power), AA9 GND (power), AA12 GND (power), AA15 GND (power), AA18 GND (power), AA21 GND (power), B1 GND (power), B3 GND (power), B6 GND (power), B9 GND (power), B12 GND (power), B15 GND (power), B18 GND (power), B21 GND (power), D1 GND (power), D2 GND (power), D3 GND (power), D4 GND (power), D5 GND (power), D6 GND (power), E3 GND (power), E6 GND (power), E9 GND (power), E12 GND (power), E15 GND (power), E18 GND (power), E21 GND (power), F1 GND (power), F2 GND (power), F3 GND (power), F4 GND (power), F5 GND (power), F6 GND (power), G3 GND (power), G6 GND (power), H1 GND (power), H2 GND (power), H3 GND (power), H4 GND (power), H5 GND (power), H6 GND (power), H7 GND (power), H15 GND (power), H18 GND (power), H21 GND (power), J2 GND (power), J4 GND (power), J9 GND (power), J11 GND (power), J12 GND (power), K2 GND (power), K3 GND (power), K4 GND (power), K5 GND (power), K6 GND (power), K7 GND (power), K8 GND (power), K10 GND (power), K12 GND (power), L1 GND (power), L2 GND (power), L9 GND (power), L11 GND (power), L13 GND (power), M1 GND (power), M2 GND (power), M8 GND (power), M10 GND (power), M12 GND (power), N2 GND (power), N4 GND (power), N5 GND (power), N6 GND (power), N7 GND (power), N9 GND (power), N11 GND (power), N13 GND (power), P2 GND (power), P3 GND (power), P5 GND (power), P7 GND (power), P8 GND (power), P10 GND (power), P12 GND (power), R1 GND (power), R2 GND (power), R3 GND (power), R4 GND (power), R5 GND (power), R6 GND (power), R7 GND (power), R9 GND (power), R11 GND (power), R12 GND (power), R15 GND (power), R18 GND (power), R21 GND (power), T3 GND (power), T6 GND (power), T7 GND (power), U1 GND (power), U2 GND (power), U3 GND (power), U4 GND (power), U5 GND (power), U6 GND (power), V3 GND (power), V6 GND (power), V9 GND (power), V12 GND (power), V15 GND (power), V18 GND (power), V21 GND (power), W1 GND (power), W2 GND (power), W3 GND (power), W4 GND (power), W5 GND (power), W6 GND (power), Y2 GND (power)
part R pins: J5 NC, J6 NC
part A text: BANK 1
part B text: BANK 2
part C text: BANK 3
part D text: BANK 4
part E text: BANK 7
part F text: BANK 8
part G text: BANK 9
part H text: BANK 10
part I text: BANK 12
part J text: BANK 14

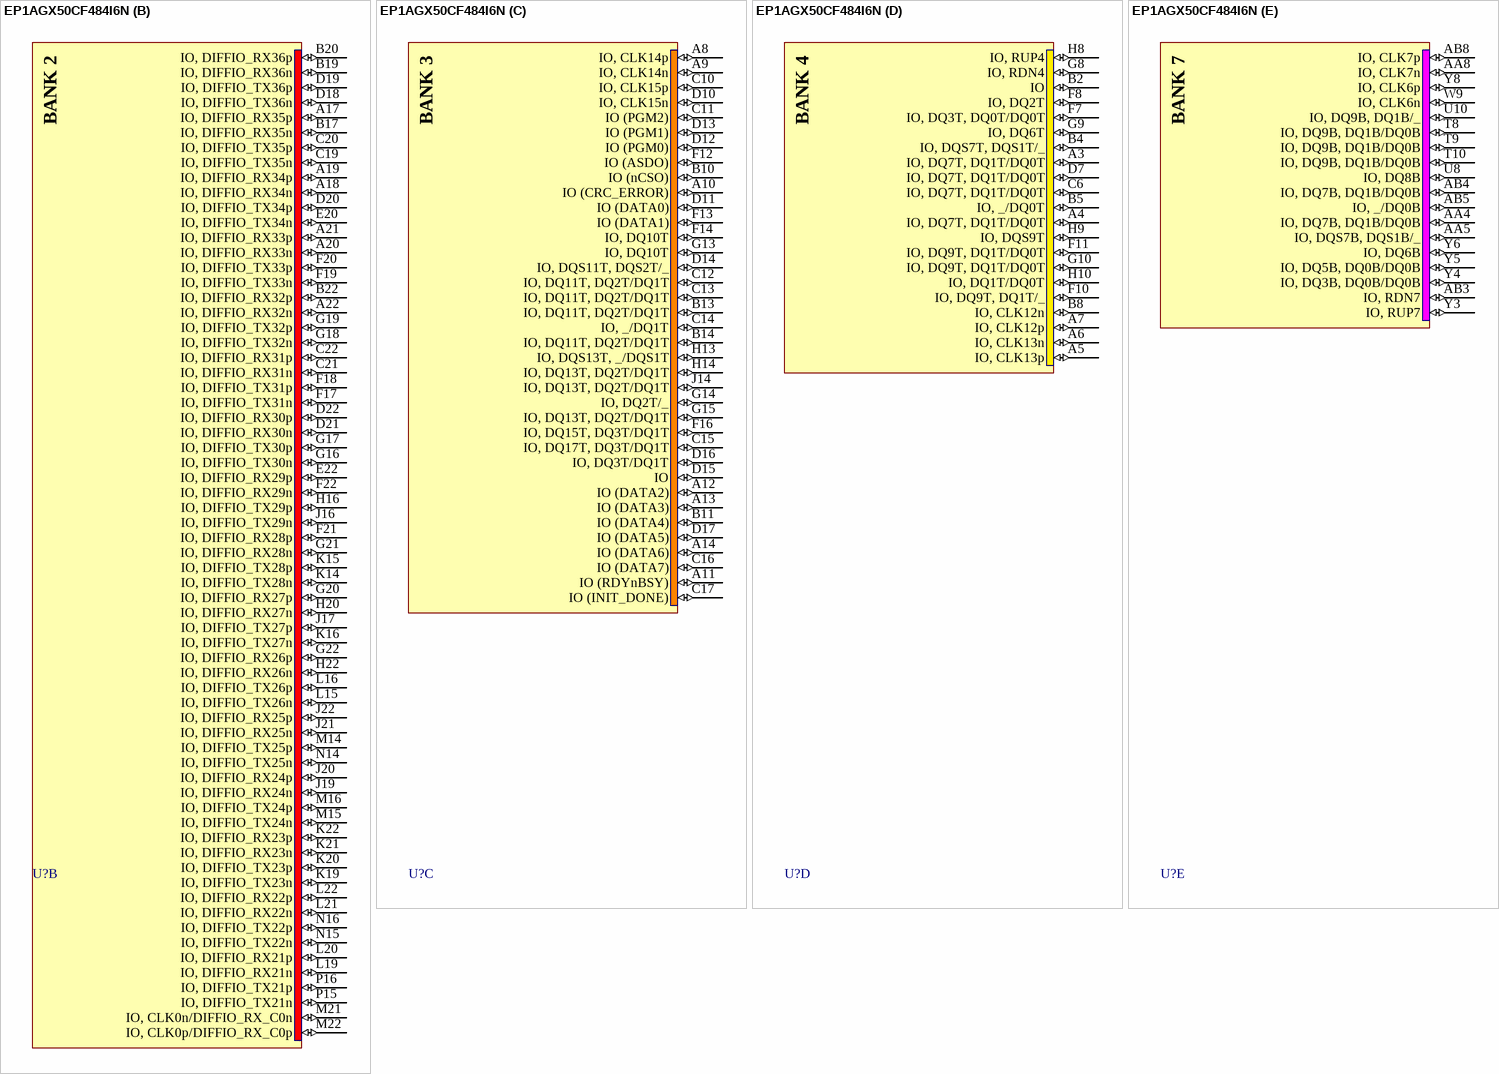
[diagram p58: symbol EP1AGX50CF484I6N]

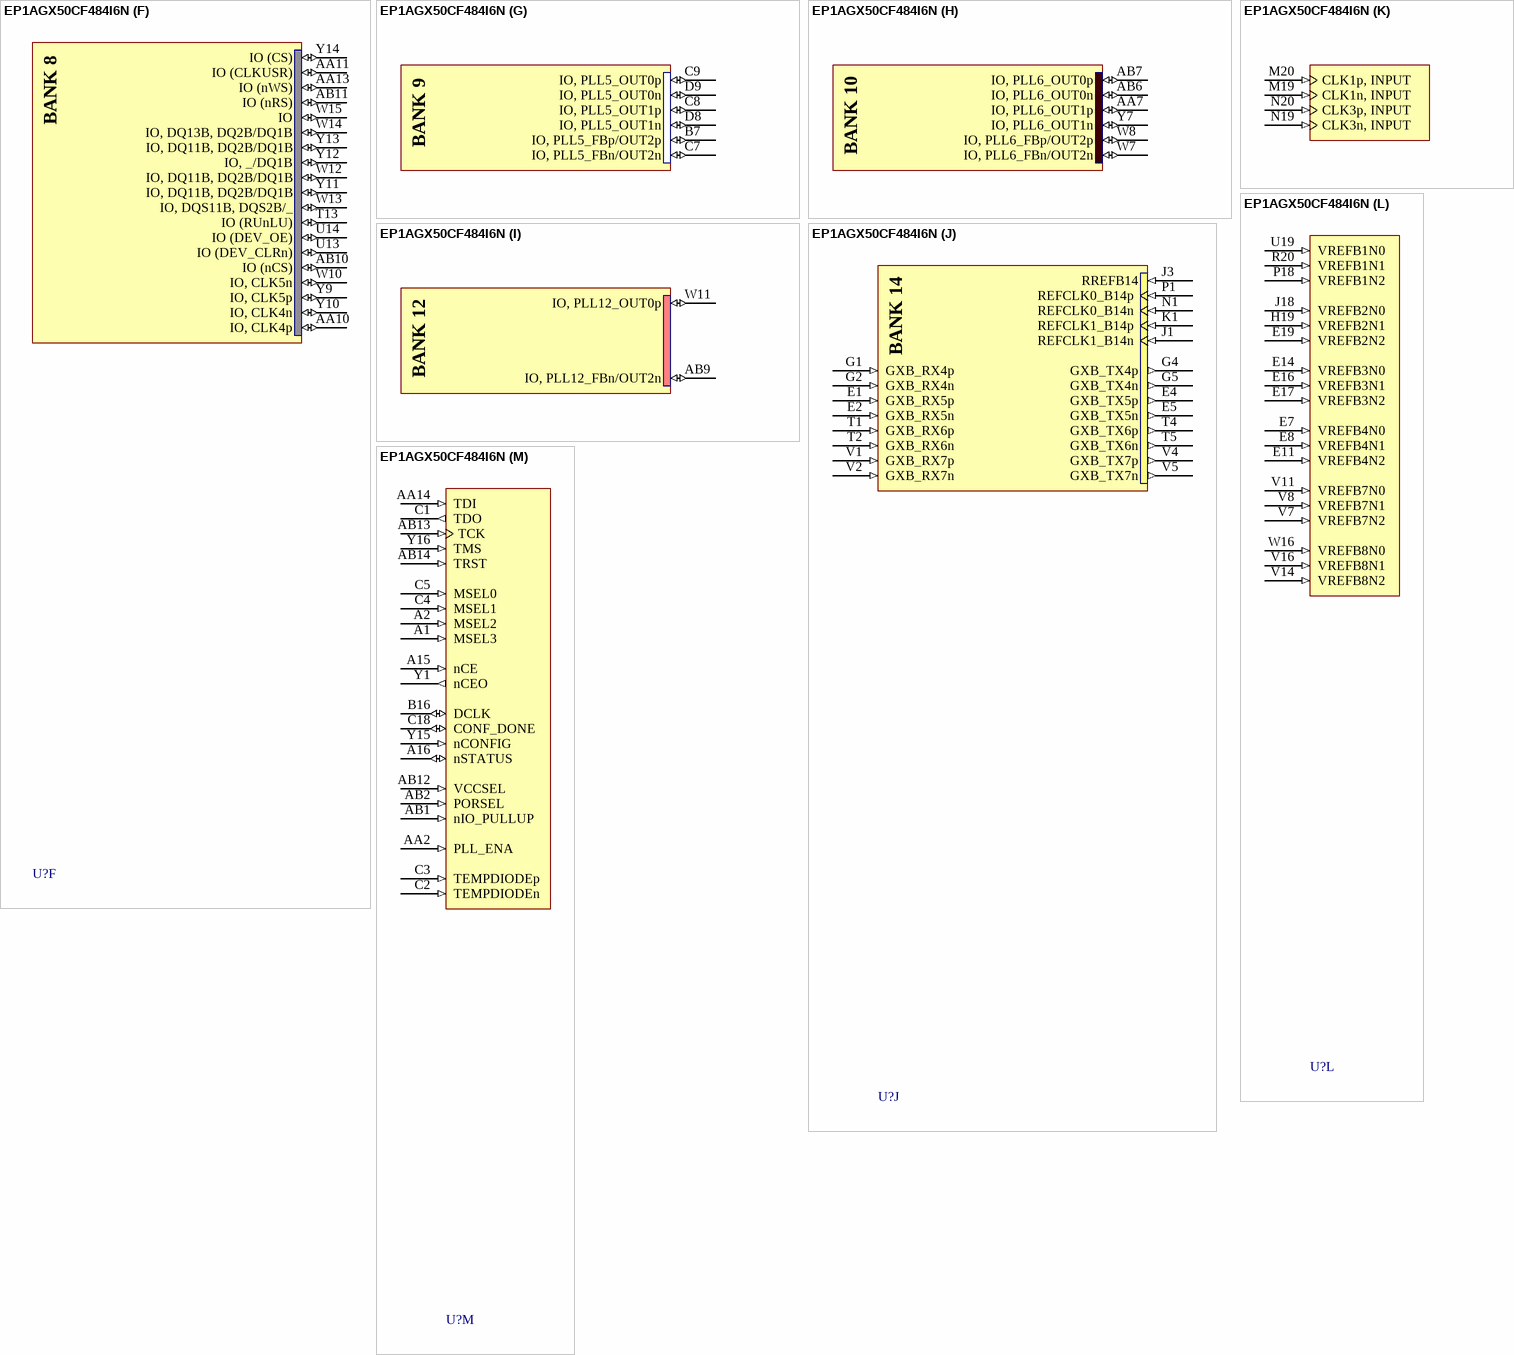
[diagram p59: symbol EP1AGX50CF484I6N]

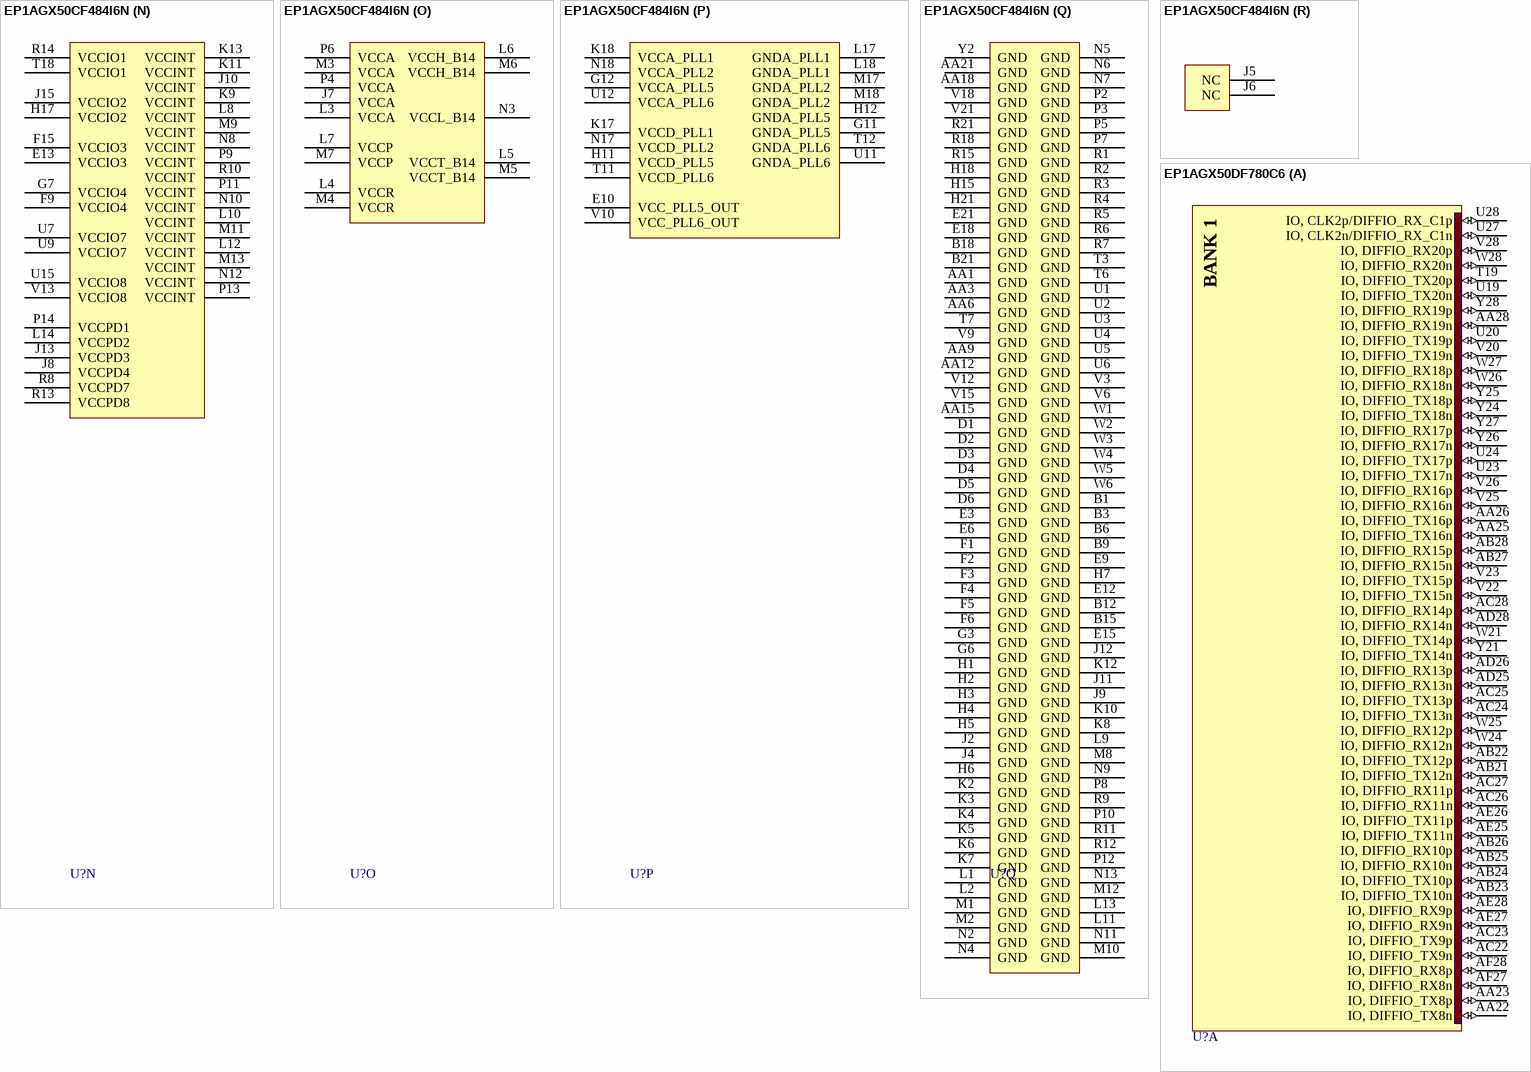
[diagram p60: symbols EP1AGX50CF484I6N to EP1AGX50DF780C6]

## EP1AGX50CF484I6N
designator U?
Arria GX Family FPGA, 254 I/O Pins, 4 PLLs, 484-Pin FPGA, Speed Grade 6, Industrial Grade, Pb-Free; Note: DQS signal pins named according to DQ bus modes.  "/" separates each mode. ie. Modes x8/x9 / Modes x16/x18.; Published: 20-Jul-2007; DatasheetVersion: ver1.3, May-2008; PackageVersion: ver16.0, Dec-2009; PackageReference: FBGA484; Publisher: Altium Limited; PackageDescription: 484-Ball FineLine Ball Grid Array (FBGA484) - Flip Chip; Supplier 1: Digi-Key; Supplier Part Number 1: 544-2401-ND; Code_JEDEC: MS-034-AAJ-1; Code_IPC: BGA100P22X22-484; ComponentLink1Description: Manufacturer Link; ComponentLink1URL: http://www.altera.com/; ComponentLink2Description: Datasheet; ComponentLink2URL: http://www.altera.com/literature/hb/agx/arriagx_handbook.pdf; ComponentLink3Description: Packaging Specification; ComponentLink3URL: http://www.altera.com/literature/ds/dspkg.pdf
footprint FBGA484 (BGA, 484-Leads, Body 23x23mm, Pitch 1mm)
3D model EP1AGX50C-FBGA484 (484-Ball FineLine Ball Grid Array (FBGA484) - Flip Chip)
signal-integrity model EP1AGX50C_F484 (Arria GX)
part A pins: AA16 IO, DIFFIO_TX9p (io), AA17 IO, DIFFIO_TX10n (io), AA19 IO, DIFFIO_RX9n (io), AA20 IO, DIFFIO_RX9p (io), AA22 IO, DIFFIO_RX12p (io), AB15 IO, DIFFIO_TX8n (io), AB16 IO, DIFFIO_TX8p (io), AB17 IO, DIFFIO_TX10p (io), AB18 IO, DIFFIO_RX10n (io), AB19 IO, DIFFIO_RX10p (io), AB20 IO, DIFFIO_RX11n (io), AB21 IO, DIFFIO_RX11p (io), AB22 IO, DIFFIO_RX12n (io), N21 IO, CLK2n/DIFFIO_RX_C1n (io), N22 IO, CLK2p/DIFFIO_RX_C1p (io), P17 IO, DIFFIO_TX18p (io), P19 IO, DIFFIO_RX19n (io), P20 IO, DIFFIO_RX19p (io), P21 IO, DIFFIO_RX20n (io), P22 IO, DIFFIO_RX20p (io), R16 IO, DIFFIO_TX18n (io), R17 IO, DIFFIO_TX15p (io), R19 IO, DIFFIO_TX11p (io), R22 IO, DIFFIO_RX18p (io), T14 IO, DIFFIO_TX20n (io), T15 IO, DIFFIO_TX20p (io), T16 IO, DIFFIO_TX19p (io), T17 IO, DIFFIO_TX15n (io), T19 IO, DIFFIO_TX11n (io), T20 IO, DIFFIO_RX17n (io), T21 IO, DIFFIO_RX17p (io), T22 IO, DIFFIO_RX18n (io), U16 IO, DIFFIO_TX19n (io), U17 IO, DIFFIO_TX16n (io), U18 IO, DIFFIO_TX16p (io), U20 IO, DIFFIO_RX16n (io), U21 IO, DIFFIO_RX16p (io), U22 IO, DIFFIO_RX15p (io), V17 IO, DIFFIO_TX17p (io), V19 IO, DIFFIO_TX12n (io), V20 IO, DIFFIO_TX12p (io), V22 IO, DIFFIO_RX15n (io), W17 IO, DIFFIO_TX17n (io), W18 IO, DIFFIO_TX14n (io), W19 IO, DIFFIO_TX14p (io), W20 IO, DIFFIO_RX8p (io), W21 IO, DIFFIO_RX14n (io), W22 IO, DIFFIO_RX14p (io), Y17 IO, DIFFIO_TX9n (io), Y18 IO, DIFFIO_TX13n (io), Y19 IO, DIFFIO_TX13p (io), Y20 IO, DIFFIO_RX8n (io), Y21 IO, DIFFIO_RX13n (io), Y22 IO, DIFFIO_RX13p (io)
part B pins: A17 IO, DIFFIO_RX35p (io), A18 IO, DIFFIO_RX34n (io), A19 IO, DIFFIO_RX34p (io), A20 IO, DIFFIO_RX33n (io), A21 IO, DIFFIO_RX33p (io), A22 IO, DIFFIO_RX32n (io), B17 IO, DIFFIO_RX35n (io), B19 IO, DIFFIO_RX36n (io), B20 IO, DIFFIO_RX36p (io), B22 IO, DIFFIO_RX32p (io), C19 IO, DIFFIO_TX35n (io), C20 IO, DIFFIO_TX35p (io), C21 IO, DIFFIO_RX31n (io), C22 IO, DIFFIO_RX31p (io), D18 IO, DIFFIO_TX36n (io), D19 IO, DIFFIO_TX36p (io), D20 IO, DIFFIO_TX34p (io), D21 IO, DIFFIO_RX30n (io), D22 IO, DIFFIO_RX30p (io), E20 IO, DIFFIO_TX34n (io), E22 IO, DIFFIO_RX29p (io), F17 IO, DIFFIO_TX31n (io), F18 IO, DIFFIO_TX31p (io), F19 IO, DIFFIO_TX33n (io), F20 IO, DIFFIO_TX33p (io), F21 IO, DIFFIO_RX28p (io), F22 IO, DIFFIO_RX29n (io), G16 IO, DIFFIO_TX30n (io), G17 IO, DIFFIO_TX30p (io), G18 IO, DIFFIO_TX32n (io), G19 IO, DIFFIO_TX32p (io), G20 IO, DIFFIO_RX27p (io), G21 IO, DIFFIO_RX28n (io), G22 IO, DIFFIO_RX26p (io), H16 IO, DIFFIO_TX29p (io), H20 IO, DIFFIO_RX27n (io), H22 IO, DIFFIO_RX26n (io), J16 IO, DIFFIO_TX29n (io), J17 IO, DIFFIO_TX27p (io), J19 IO, DIFFIO_RX24n (io), J20 IO, DIFFIO_RX24p (io), J21 IO, DIFFIO_RX25n (io), J22 IO, DIFFIO_RX25p (io), K14 IO, DIFFIO_TX28n (io), K15 IO, DIFFIO_TX28p (io), K16 IO, DIFFIO_TX27n (io), K19 IO, DIFFIO_TX23n (io), K20 IO, DIFFIO_TX23p (io), K21 IO, DIFFIO_RX23n (io), K22 IO, DIFFIO_RX23p (io), L15 IO, DIFFIO_TX26n (io), L16 IO, DIFFIO_TX26p (io), L19 IO, DIFFIO_RX21n (io), L20 IO, DIFFIO_RX21p (io), L21 IO, DIFFIO_RX22n (io), L22 IO, DIFFIO_RX22p (io), M14 IO, DIFFIO_TX25p (io), M15 IO, DIFFIO_TX24n (io), M16 IO, DIFFIO_TX24p (io), M21 IO, CLK0n/DIFFIO_RX_C0n (io), M22 IO, CLK0p/DIFFIO_RX_C0p (io), N14 IO, DIFFIO_TX25n (io), N15 IO, DIFFIO_TX22n (io), N16 IO, DIFFIO_TX22p (io), P15 IO, DIFFIO_TX21n (io), P16 IO, DIFFIO_TX21p (io)
part C pins: A8 IO, CLK14p (io), A9 IO, CLK14n (io), A10 IO (CRC_ERROR) (io), A11 IO (RDYnBSY) (io), A12 IO (DATA2) (io), A13 IO (DATA3) (io), A14 IO (DATA6) (io), B10 IO (nCSO) (io), B11 IO (DATA4) (io), B13 IO, DQ11T, DQ2T/DQ1T (io), B14 IO, DQ11T, DQ2T/DQ1T (io), C10 IO, CLK15p (io), C11 IO (PGM2) (io), C12 IO, DQ11T, DQ2T/DQ1T (io), C13 IO, DQ11T, DQ2T/DQ1T (io), C14 IO, _/DQ1T (io), C15 IO, DQ17T, DQ3T/DQ1T (io), C16 IO (DATA7) (io), C17 IO (INIT_DONE) (io), D10 IO, CLK15n (io), D11 IO (DATA0) (io), D12 IO (PGM0) (io), D13 IO (PGM1) (io), D14 IO, DQS11T, DQS2T/_ (io), D15 IO (io), D16 IO, DQ3T/DQ1T (io), D17 IO (DATA5) (io), F12 IO (ASDO) (io), F13 IO (DATA1) (io), F14 IO, DQ10T (io), F16 IO, DQ15T, DQ3T/DQ1T (io), G13 IO, DQ10T (io), G14 IO, DQ2T/_ (io), G15 IO, DQ13T, DQ2T/DQ1T (io), H13 IO, DQS13T, _/DQS1T (io), H14 IO, DQ13T, DQ2T/DQ1T (io), J14 IO, DQ13T, DQ2T/DQ1T (io)
part D pins: A3 IO, DQ7T, DQ1T/DQ0T (io), A4 IO, DQ7T, DQ1T/DQ0T (io), A5 IO, CLK13p (io), A6 IO, CLK13n (io), A7 IO, CLK12p (io), B2 IO (io), B4 IO, DQS7T, DQS1T/_ (io), B5 IO, _/DQ0T (io), B8 IO, CLK12n (io), C6 IO, DQ7T, DQ1T/DQ0T (io), D7 IO, DQ7T, DQ1T/DQ0T (io), F7 IO, DQ3T, DQ0T/DQ0T (io), F8 IO, DQ2T (io), F10 IO, DQ9T, DQ1T/_ (io), F11 IO, DQ9T, DQ1T/DQ0T (io), G8 IO, RDN4 (io), G9 IO, DQ6T (io), G10 IO, DQ9T, DQ1T/DQ0T (io), H8 IO, RUP4 (io), H9 IO, DQS9T (io), H10 IO, DQ1T/DQ0T (io)
part E pins: AA4 IO, DQ7B, DQ1B/DQ0B (io), AA5 IO, DQS7B, DQS1B/_ (io), AA8 IO, CLK7n (io), AB3 IO, RDN7 (io), AB4 IO, DQ7B, DQ1B/DQ0B (io), AB5 IO, _/DQ0B (io), AB8 IO, CLK7p (io), T8 IO, DQ9B, DQ1B/DQ0B (io), T9 IO, DQ9B, DQ1B/DQ0B (io), T10 IO, DQ9B, DQ1B/DQ0B (io), U8 IO, DQ8B (io), U10 IO, DQ9B, DQ1B/_ (io), W9 IO, CLK6n (io), Y3 IO, RUP7 (io), Y4 IO, DQ3B, DQ0B/DQ0B (io), Y5 IO, DQ5B, DQ0B/DQ0B (io), Y6 IO, DQ6B (io), Y8 IO, CLK6p (io)
part F pins: AA10 IO, CLK4p (io), AA11 IO (CLKUSR) (io), AA13 IO (nWS) (io), AB10 IO (nCS) (io), AB11 IO (nRS) (io), T13 IO (RUnLU) (io), U13 IO (DEV_CLRn) (io), U14 IO (DEV_OE) (io), W10 IO, CLK5n (io), W12 IO, DQ11B, DQ2B/DQ1B (io), W13 IO, DQS11B, DQS2B/_ (io), W14 IO, DQ13B, DQ2B/DQ1B (io), W15 IO (io), Y9 IO, CLK5p (io), Y10 IO, CLK4n (io), Y11 IO, DQ11B, DQ2B/DQ1B (io), Y12 IO, _/DQ1B (io), Y13 IO, DQ11B, DQ2B/DQ1B (io), Y14 IO (CS) (io)
part G pins: B7 IO, PLL5_FBp/OUT2p (io), C7 IO, PLL5_FBn/OUT2n (io), C8 IO, PLL5_OUT1p (io), C9 IO, PLL5_OUT0p (io), D8 IO, PLL5_OUT1n (io), D9 IO, PLL5_OUT0n (io)
part H pins: AA7 IO, PLL6_OUT1p (io), AB6 IO, PLL6_OUT0n (io), AB7 IO, PLL6_OUT0p (io), W7 IO, PLL6_FBn/OUT2n (io), W8 IO, PLL6_FBp/OUT2p (io), Y7 IO, PLL6_OUT1n (io)
part I pins: AB9 IO, PLL12_FBn/OUT2n (io), W11 IO, PLL12_OUT0p (io)
part J pins: E1 GXB_RX5p (in), E2 GXB_RX5n (in), E4 GXB_TX5p (out), E5 GXB_TX5n (out), G1 GXB_RX4p (in), G2 GXB_RX4n (in), G4 GXB_TX4p (out), G5 GXB_TX4n (out), J1 REFCLK1_B14n (in), J3 RREFB14 (in), K1 REFCLK1_B14p (in), N1 REFCLK0_B14n (in), P1 REFCLK0_B14p (in), T1 GXB_RX6p (in), T2 GXB_RX6n (in), T4 GXB_TX6p (out), T5 GXB_TX6n (out), V1 GXB_RX7p (in), V2 GXB_RX7n (in), V4 GXB_TX7p (out), V5 GXB_TX7n (out)
part K pins: M19 CLK1n, INPUT (in), M20 CLK1p, INPUT (in), N19 CLK3n, INPUT (in), N20 CLK3p, INPUT (in)
part L pins: E7 VREFB4N0 (in), E8 VREFB4N1 (in), E11 VREFB4N2 (in), E14 VREFB3N0 (in), E16 VREFB3N1 (in), E17 VREFB3N2 (in), E19 VREFB2N2 (in), H19 VREFB2N1 (in), J18 VREFB2N0 (in), P18 VREFB1N2 (in), R20 VREFB1N1 (in), U19 VREFB1N0 (in), V7 VREFB7N2 (in), V8 VREFB7N1 (in), V11 VREFB7N0 (in), V14 VREFB8N2 (in), V16 VREFB8N1 (in), W16 VREFB8N0 (in)
part M pins: A1 MSEL3 (in), A2 MSEL2 (in), A15 nCE (in), A16 nSTATUS (io), AA2 PLL_ENA (in), AA14 TDI (in), AB1 nIO_PULLUP (in), AB2 PORSEL (in), AB12 VCCSEL (in), AB13 TCK (in), AB14 TRST (in), B16 DCLK (io), C1 TDO (out), C2 TEMPDIODEn (in), C3 TEMPDIODEp (in), C4 MSEL1 (in), C5 MSEL0 (in), C18 CONF_DONE (io), Y1 nCEO (out), Y15 nCONFIG (in), Y16 TMS (in)
part N pins: E13 VCCIO3 (power), F9 VCCIO4 (power), F15 VCCIO3 (power), G7 VCCIO4 (power), H17 VCCIO2 (power), J8 VCCPD4 (power), J10 VCCINT (power), J13 VCCPD3 (power), J15 VCCIO2 (power), K9 VCCINT (power), K11 VCCINT (power), K13 VCCINT (power), L8 VCCINT (power), L10 VCCINT (power), L12 VCCINT (power), L14 VCCPD2 (power), M9 VCCINT (power), M11 VCCINT (power), M13 VCCINT (power), N8 VCCINT (power), N10 VCCINT (power), N12 VCCINT (power), P9 VCCINT (power), P11 VCCINT (power), P13 VCCINT (power), P14 VCCPD1 (power), R8 VCCPD7 (power), R10 VCCINT (power), R13 VCCPD8 (power), R14 VCCIO1 (power), T18 VCCIO1 (power), U7 VCCIO7 (power), U9 VCCIO7 (power), U15 VCCIO8 (power), V13 VCCIO8 (power)
part O pins: J7 VCCA (power), L3 VCCA (power), L4 VCCR (power), L5 VCCT_B14 (power), L6 VCCH_B14 (power), L7 VCCP (power), M3 VCCA (power), M4 VCCR (power), M5 VCCT_B14 (power), M6 VCCH_B14 (power), M7 VCCP (power), N3 VCCL_B14 (power), P4 VCCA (power), P6 VCCA (power)
part P pins: E10 VCC_PLL5_OUT (power), G11 GNDA_PLL5 (power), G12 VCCA_PLL5 (power), H11 VCCD_PLL5 (power), H12 GNDA_PLL5 (power), K17 VCCD_PLL1 (power), K18 VCCA_PLL1 (power), L17 GNDA_PLL1 (power), L18 GNDA_PLL1 (power), M17 GNDA_PLL2 (power), M18 GNDA_PLL2 (power), N17 VCCD_PLL2 (power), N18 VCCA_PLL2 (power), T11 VCCD_PLL6 (power), T12 GNDA_PLL6 (power), U11 GNDA_PLL6 (power), U12 VCCA_PLL6 (power), V10 VCC_PLL6_OUT (power)
part Q pins: AA1 GND (power), AA3 GND (power), AA6 GND (power), AA9 GND (power), AA12 GND (power), AA15 GND (power), AA18 GND (power), AA21 GND (power), B1 GND (power), B3 GND (power), B6 GND (power), B9 GND (power), B12 GND (power), B15 GND (power), B18 GND (power), B21 GND (power), D1 GND (power), D2 GND (power), D3 GND (power), D4 GND (power), D5 GND (power), D6 GND (power), E3 GND (power), E6 GND (power), E9 GND (power), E12 GND (power), E15 GND (power), E18 GND (power), E21 GND (power), F1 GND (power), F2 GND (power), F3 GND (power), F4 GND (power), F5 GND (power), F6 GND (power), G3 GND (power), G6 GND (power), H1 GND (power), H2 GND (power), H3 GND (power), H4 GND (power), H5 GND (power), H6 GND (power), H7 GND (power), H15 GND (power), H18 GND (power), H21 GND (power), J2 GND (power), J4 GND (power), J9 GND (power), J11 GND (power), J12 GND (power), K2 GND (power), K3 GND (power), K4 GND (power), K5 GND (power), K6 GND (power), K7 GND (power), K8 GND (power), K10 GND (power), K12 GND (power), L1 GND (power), L2 GND (power), L9 GND (power), L11 GND (power), L13 GND (power), M1 GND (power), M2 GND (power), M8 GND (power), M10 GND (power), M12 GND (power), N2 GND (power), N4 GND (power), N5 GND (power), N6 GND (power), N7 GND (power), N9 GND (power), N11 GND (power), N13 GND (power), P2 GND (power), P3 GND (power), P5 GND (power), P7 GND (power), P8 GND (power), P10 GND (power), P12 GND (power), R1 GND (power), R2 GND (power), R3 GND (power), R4 GND (power), R5 GND (power), R6 GND (power), R7 GND (power), R9 GND (power), R11 GND (power), R12 GND (power), R15 GND (power), R18 GND (power), R21 GND (power), T3 GND (power), T6 GND (power), T7 GND (power), U1 GND (power), U2 GND (power), U3 GND (power), U4 GND (power), U5 GND (power), U6 GND (power), V3 GND (power), V6 GND (power), V9 GND (power), V12 GND (power), V15 GND (power), V18 GND (power), V21 GND (power), W1 GND (power), W2 GND (power), W3 GND (power), W4 GND (power), W5 GND (power), W6 GND (power), Y2 GND (power)
part R pins: J5 NC, J6 NC
part A text: BANK 1
part B text: BANK 2
part C text: BANK 3
part D text: BANK 4
part E text: BANK 7
part F text: BANK 8
part G text: BANK 9
part H text: BANK 10
part I text: BANK 12
part J text: BANK 14

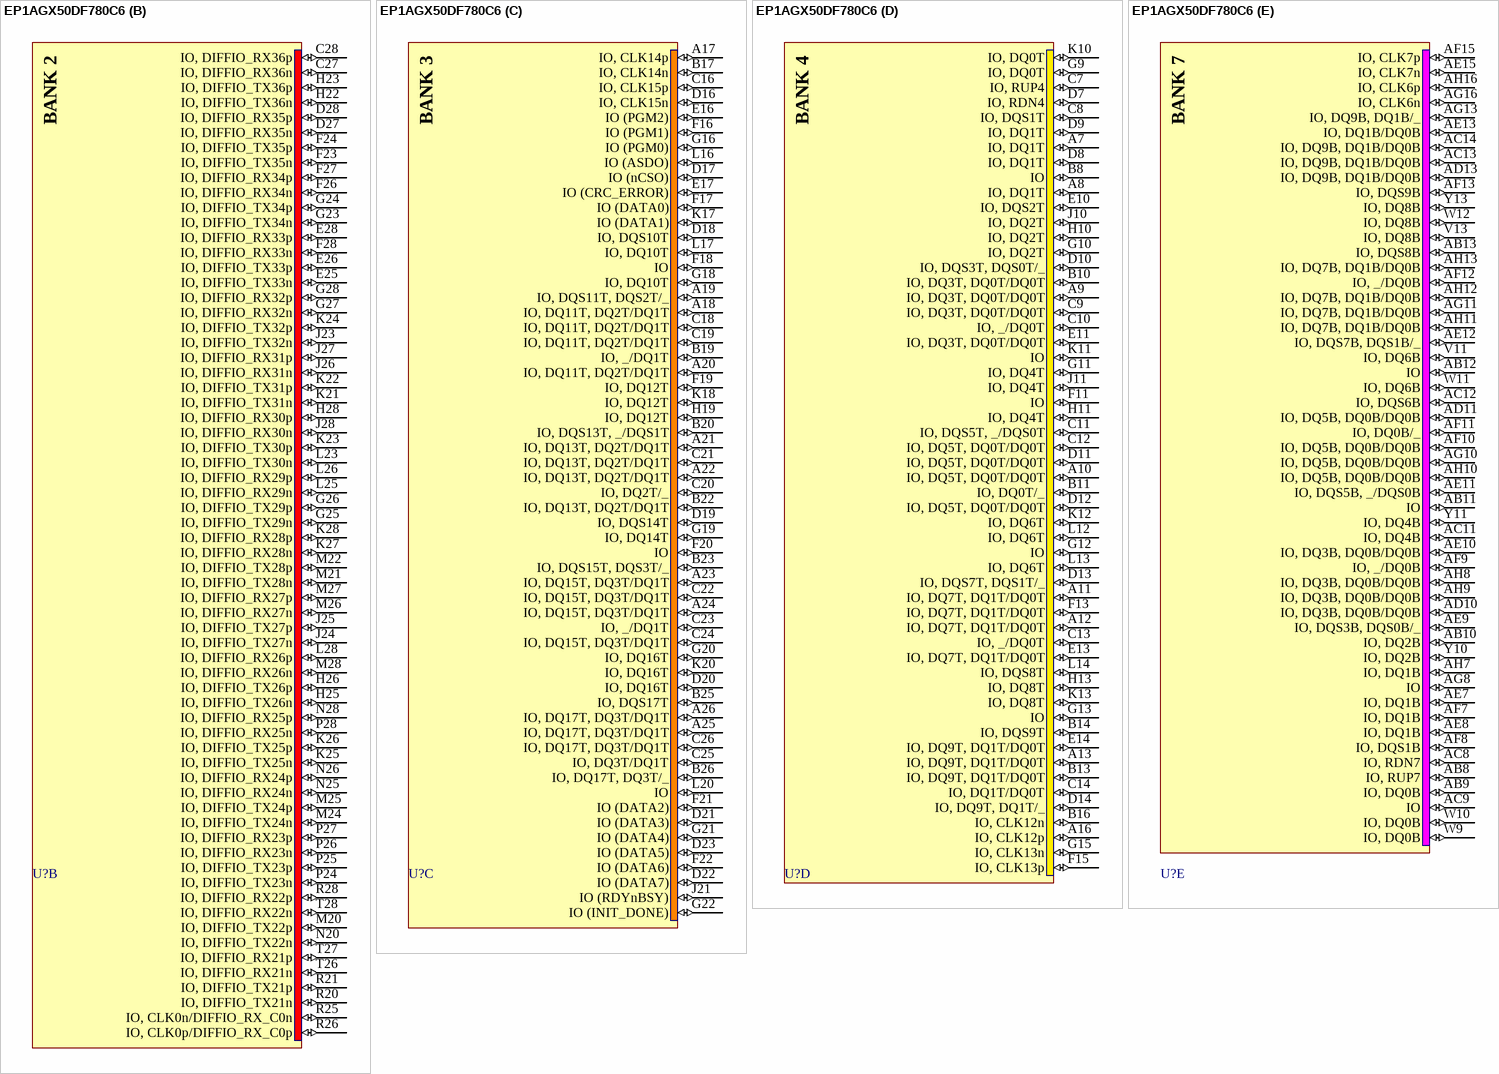
[diagram p61: symbol EP1AGX50DF780C6]

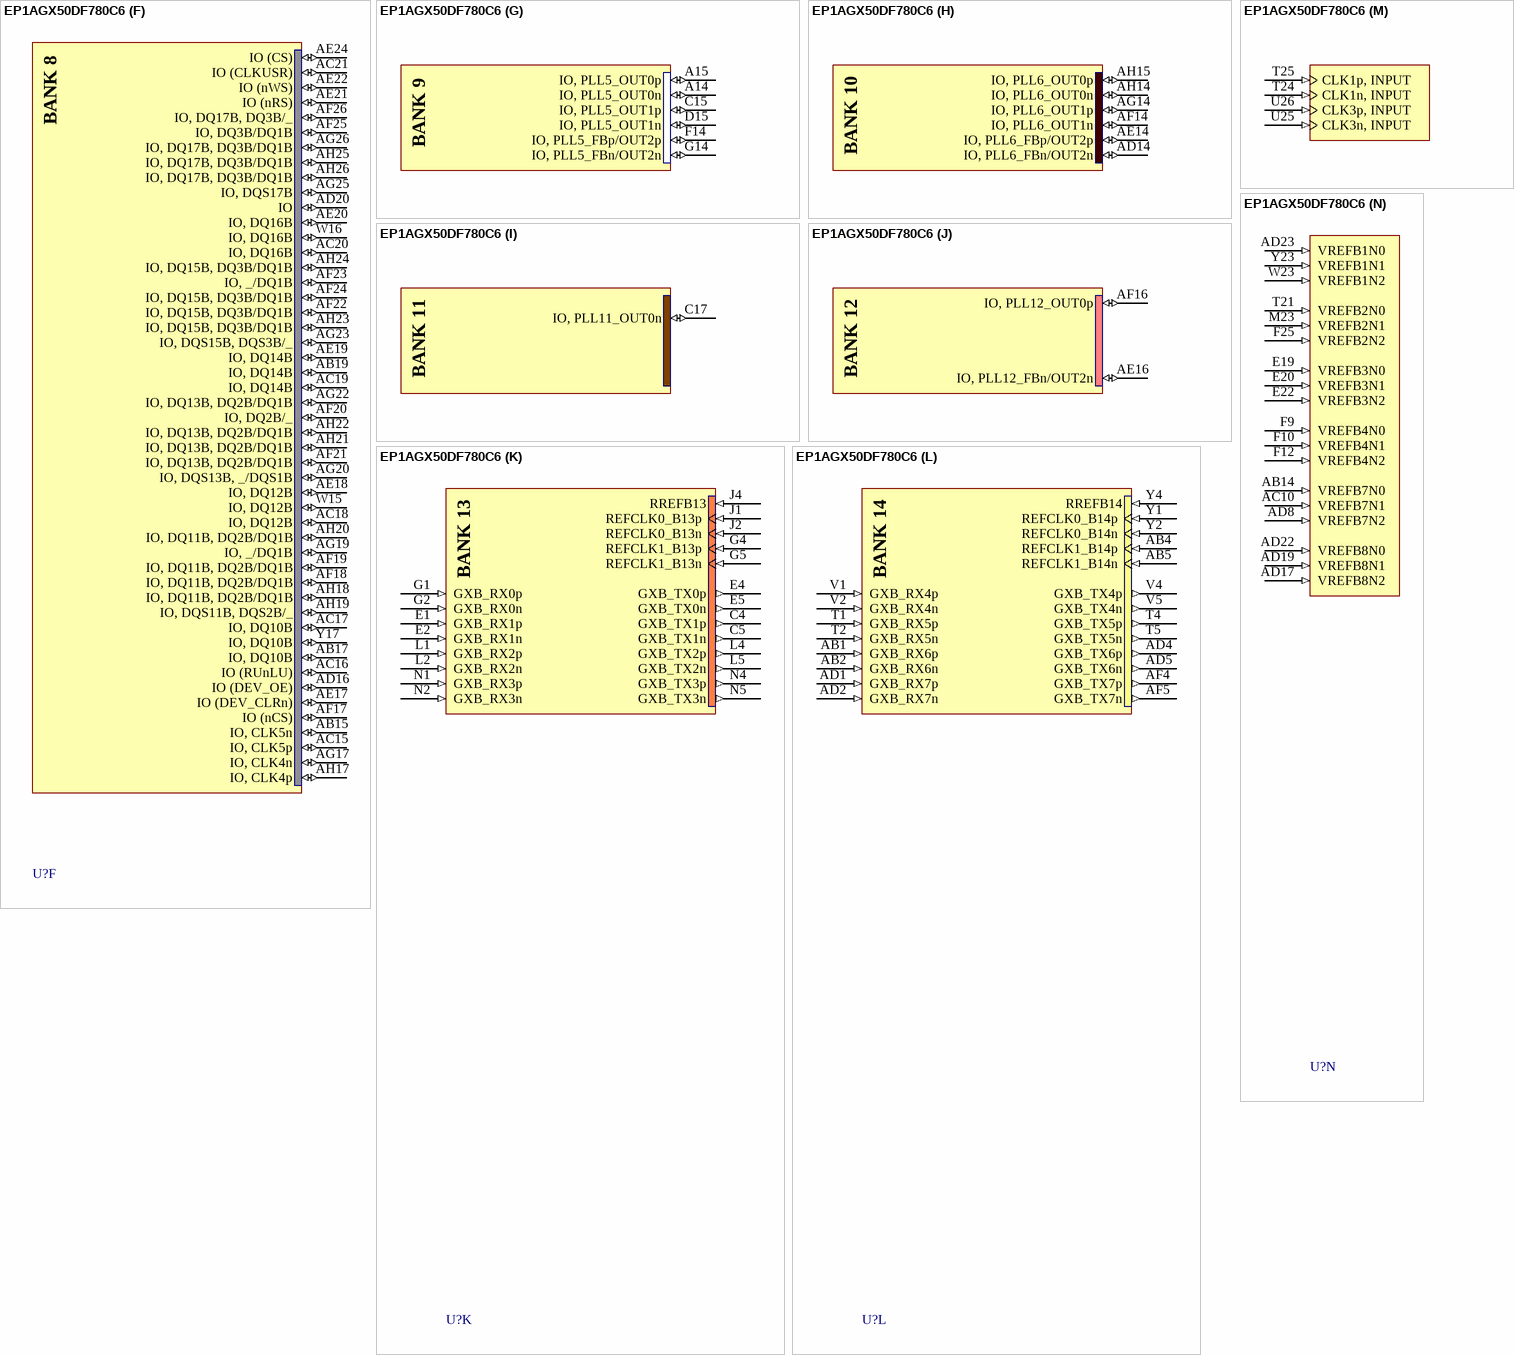
[diagram p62: symbol EP1AGX50DF780C6]

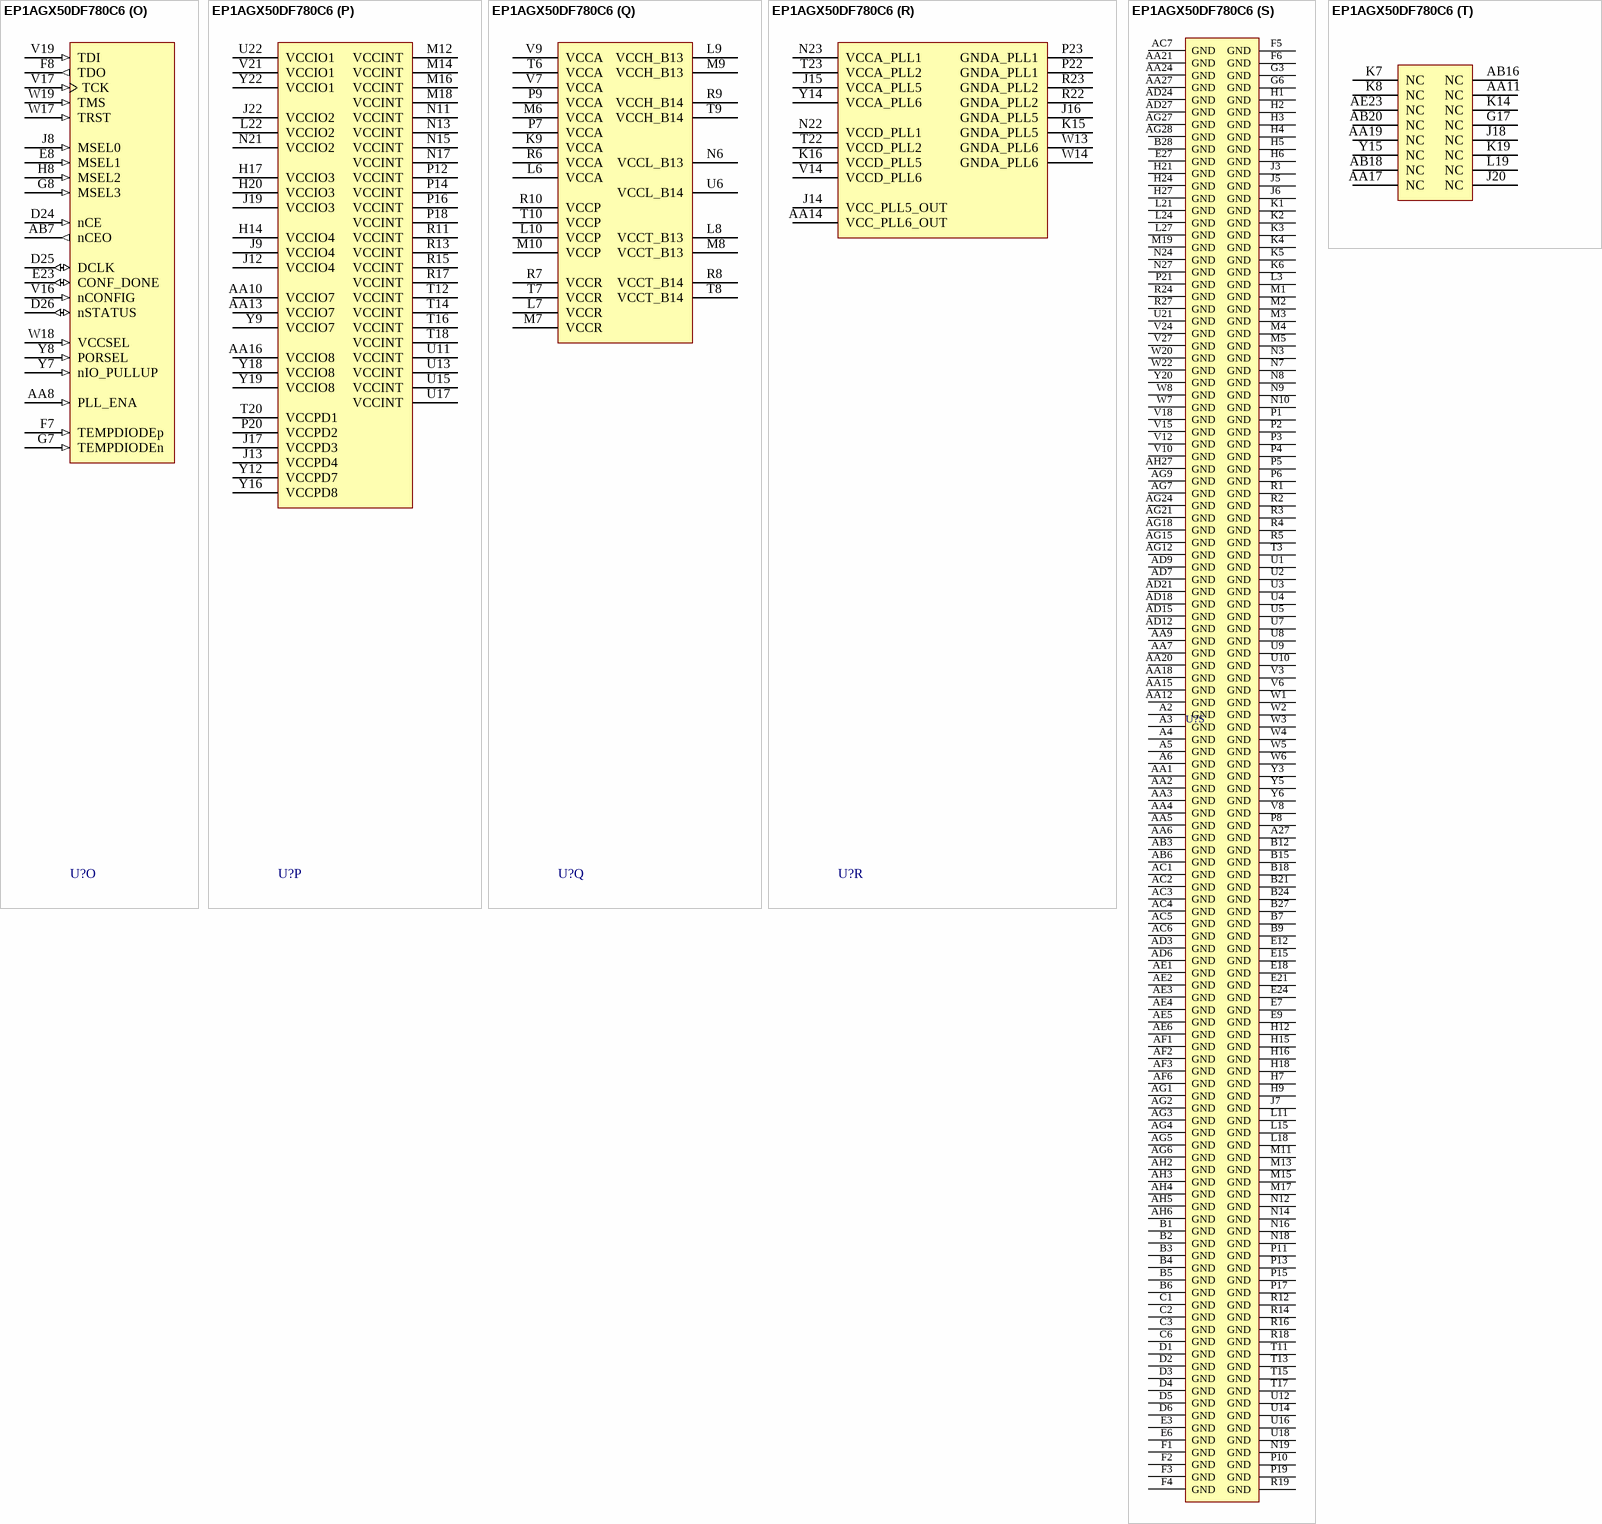
[diagram p63: symbol EP1AGX50DF780C6]